# Altium integrated library OKI Microcontroller 32-Bit ARM.IntLib: 27 symbols (part 1 of 2)
Pins are listed as number, name and electrical type; pins without a type are passive.

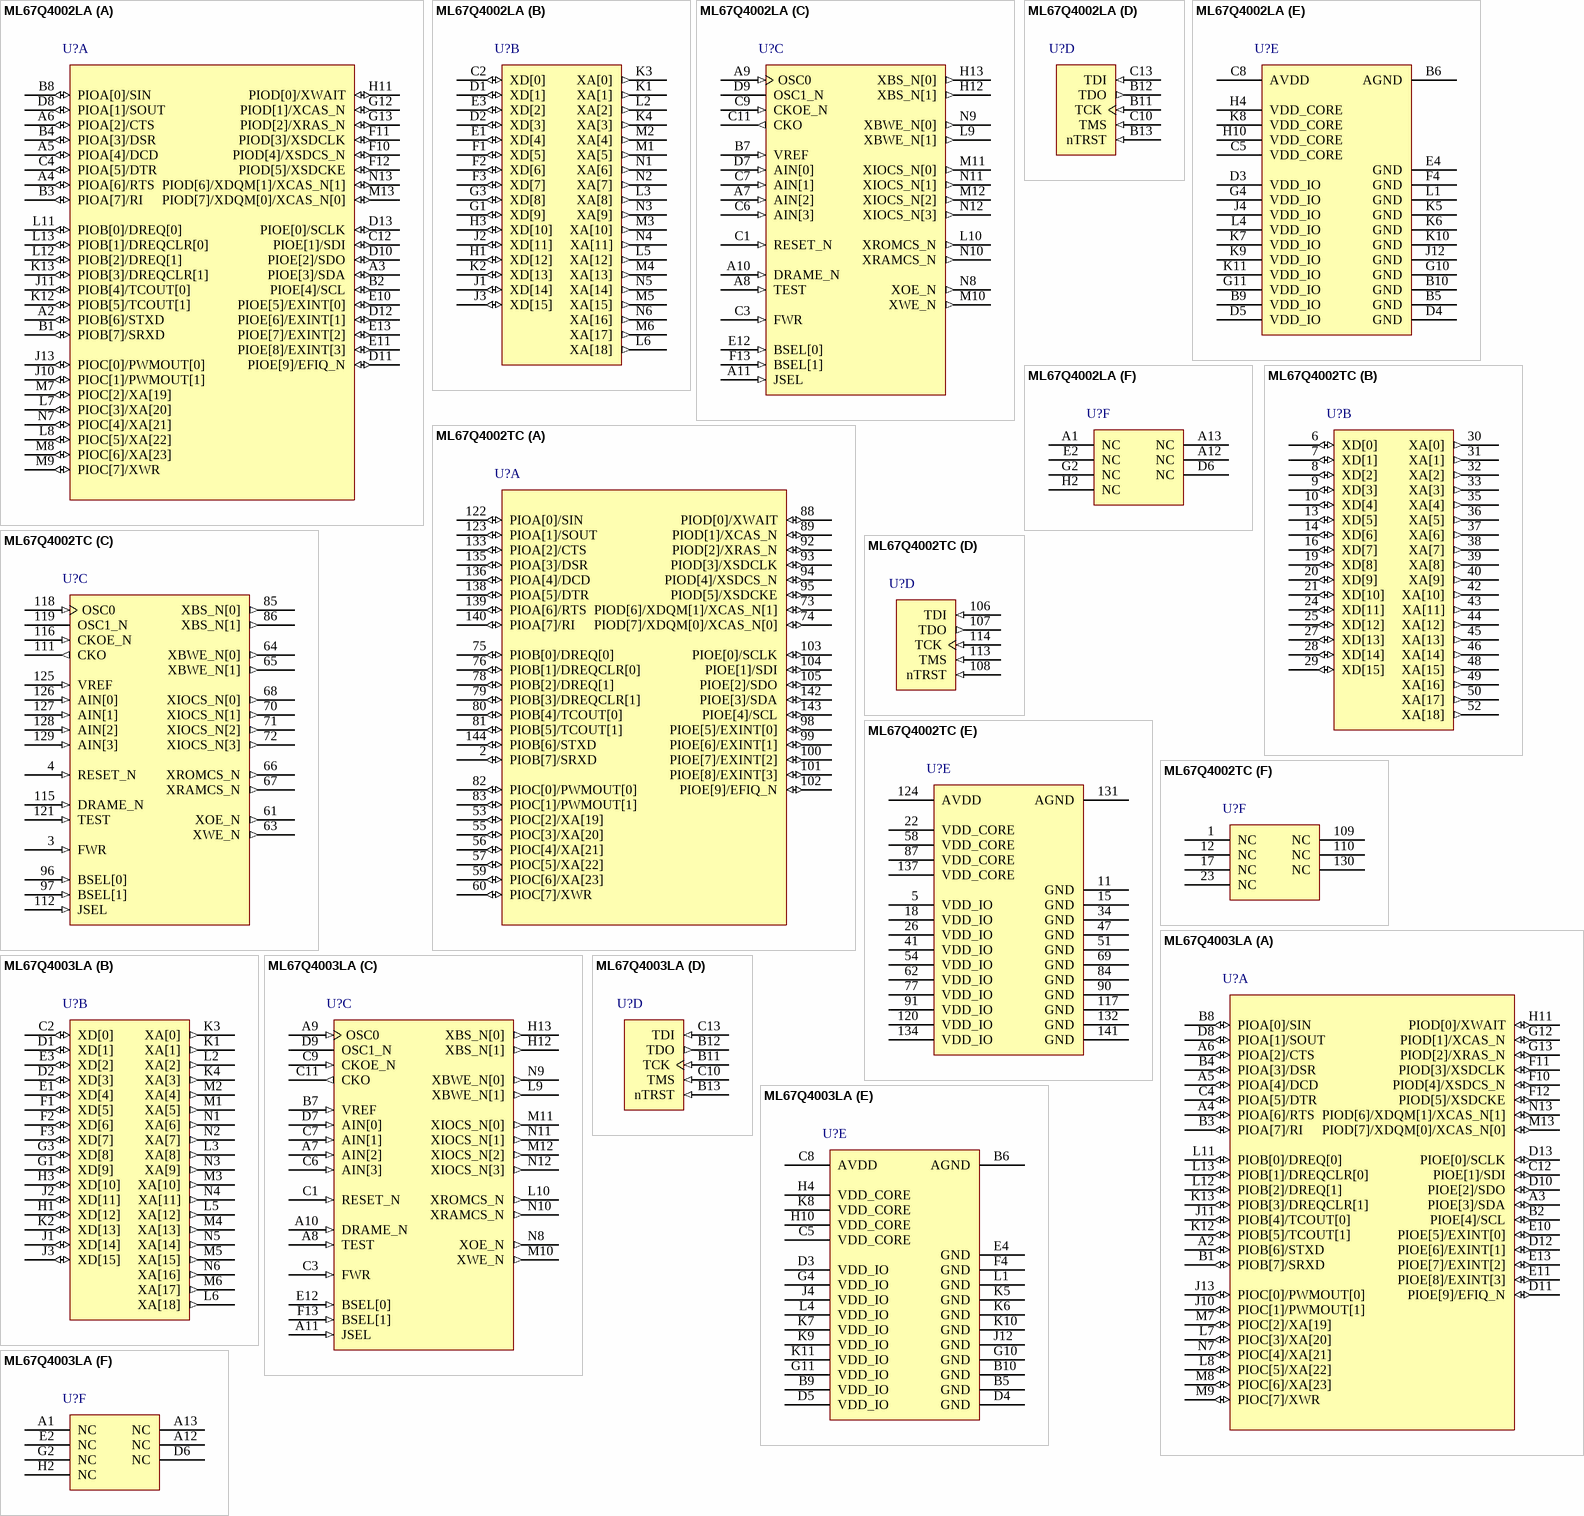
[diagram p0: symbols ML67Q4002LA to ML67Q4003LA]

## ML67Q4002LA
designator U?
ARM7TDMI 32-Bit Microcontroller, 256KB Flash ROM, 144-pin LFBGA; Published: 18-Aug-2005; LatestRevisionDate: 12-Dec-2006; LatestRevisionNote: Changed Sch Layout.; DatasheetVersion: rev2.0, Apr-2004; PackageVersion: Apr-2004; PackageReference: P-L-FBGA144-1111-0.80; Publisher: Altium Limited; PackageDescription: 144-Ball Plastic Ball Grid Array 0.8 mm Pitch; ComponentLink1Description: Manufacturer Link; ComponentLink1URL: http://www2.okisemi.com/; ComponentLink2Description: Datasheet; ComponentLink2URL: http://www2.okisemi.com/site/datasheets/ML674001_2_3_DS.pdf
footprint P-L-FBGA144-1111-0.80 (BGA, 144-Leads, Body 11x11mm, Pitch 0.8mm)
3D model ML67Q4002-BGA144 (144-Ball Plastic Ball Grid Array 0.8 mm Pitch)
part A pins: A2 PIOB[6]/STXD (io), A3 PIOE[3]/SDA (io), A4 PIOA[6]/RTS (io), A5 PIOA[4]/DCD (io), A6 PIOA[2]/CTS (io), B1 PIOB[7]/SRXD (io), B2 PIOE[4]/SCL (io), B3 PIOA[7]/RI (io), B4 PIOA[3]/DSR (io), B8 PIOA[0]/SIN (io), C4 PIOA[5]/DTR (io), C12 PIOE[1]/SDI (io), D8 PIOA[1]/SOUT (io), D10 PIOE[2]/SDO (io), D11 PIOE[9]/EFIQ_N (io), D12 PIOE[6]/EXINT[1] (io), D13 PIOE[0]/SCLK (io), E10 PIOE[5]/EXINT[0] (io), E11 PIOE[8]/EXINT[3] (io), E13 PIOE[7]/EXINT[2] (io), F10 PIOD[4]/XSDCS_N (io), F11 PIOD[3]/XSDCLK (io), F12 PIOD[5]/XSDCKE (io), G12 PIOD[1]/XCAS_N (io), G13 PIOD[2]/XRAS_N (io), H11 PIOD[0]/XWAIT (io), J10 PIOC[1]/PWMOUT[1] (io), J11 PIOB[4]/TCOUT[0] (io), J13 PIOC[0]/PWMOUT[0] (io), K12 PIOB[5]/TCOUT[1] (io), K13 PIOB[3]/DREQCLR[1] (io), L7 PIOC[3]/XA[20] (io), L8 PIOC[5]/XA[22] (io), L11 PIOB[0]/DREQ[0] (io), L12 PIOB[2]/DREQ[1] (io), L13 PIOB[1]/DREQCLR[0] (io), M7 PIOC[2]/XA[19] (io), M8 PIOC[6]/XA[23] (io), M9 PIOC[7]/XWR (io), M13 PIOD[7]/XDQM[0]/XCAS_N[0] (io), N7 PIOC[4]/XA[21] (io), N13 PIOD[6]/XDQM[1]/XCAS_N[1] (io)
part B pins: C2 XD[0] (io), D1 XD[1] (io), D2 XD[3] (io), E1 XD[4] (io), E3 XD[2] (io), F1 XD[5] (io), F2 XD[6] (io), F3 XD[7] (io), G1 XD[9] (io), G3 XD[8] (io), H1 XD[12] (io), H3 XD[10] (io), J1 XD[14] (io), J2 XD[11] (io), J3 XD[15] (io), K1 XA[1] (out), K2 XD[13] (io), K3 XA[0] (out), K4 XA[3] (out), L2 XA[2] (out), L3 XA[8] (out), L5 XA[12] (out), L6 XA[18] (out), M1 XA[5] (out), M2 XA[4] (out), M3 XA[10] (out), M4 XA[13] (out), M5 XA[15] (out), M6 XA[17] (out), N1 XA[6] (out), N2 XA[7] (out), N3 XA[9] (out), N4 XA[11] (out), N5 XA[14] (out), N6 XA[16] (out)
part C pins: A7 AIN[2] (in), A8 TEST (in), A9 OSC0 (in), A10 DRAME_N (in), A11 JSEL (in), B7 VREF (in), C1 RESET_N (in), C3 FWR (in), C6 AIN[3] (in), C7 AIN[1] (in), C9 CKOE_N (in), C11 CKO (out), D7 AIN[0] (in), D9 OSC1_N, E12 BSEL[0] (in), F13 BSEL[1] (in), H12 XBS_N[1] (out), H13 XBS_N[0] (out), L9 XBWE_N[1] (out), L10 XROMCS_N (out), M10 XWE_N (out), M11 XIOCS_N[0] (out), M12 XIOCS_N[2] (out), N8 XOE_N (out), N9 XBWE_N[0] (out), N10 XRAMCS_N (out), N11 XIOCS_N[1] (out), N12 XIOCS_N[3] (out)
part D pins: B11 TCK (in), B12 TDO (out), B13 nTRST (in), C10 TMS (in), C13 TDI (in)
part E pins: B5 GND (power), B6 AGND (power), B9 VDD_IO (power), B10 GND (power), C5 VDD_CORE (power), C8 AVDD (power), D3 VDD_IO (power), D4 GND (power), D5 VDD_IO (power), E4 GND (power), F4 GND (power), G4 VDD_IO (power), G10 GND (power), G11 VDD_IO (power), H4 VDD_CORE (power), H10 VDD_CORE (power), J4 VDD_IO (power), J12 GND (power), K5 GND (power), K6 GND (power), K7 VDD_IO (power), K8 VDD_CORE (power), K9 VDD_IO (power), K10 GND (power), K11 VDD_IO (power), L1 GND (power), L4 VDD_IO (power)
part F pins: A1 NC, A12 NC, A13 NC, D6 NC, E2 NC, G2 NC, H2 NC

## ML67Q4002TC
designator U?
ARM7TDMI 32-Bit Microcontroller, 256KB Flash ROM, 144-pin LQFP; Published: 18-Aug-2005; LatestRevisionDate: 12-Dec-2006; LatestRevisionNote: Changed Sch Layout.; DatasheetVersion: rev2.0, Apr-2004; PackageVersion: rev5, Nov-1996; PackageReference: LQFP144-P-2020-0.50-K; Publisher: Altium Limited; PackageDescription: 144-Pin Plastic Shrink Quad Flat Pack 0.5 mm Pitch; Code_IPC: SQFP50P2200X2200-144; ComponentLink1Description: Manufacturer Link; ComponentLink1URL: http://www2.okisemi.com/; ComponentLink2Description: Datasheet; ComponentLink2URL: http://www2.okisemi.com/site/datasheets/ML674001_2_3_DS.pdf
footprint LQFP144-P-2020-0.50-K_N (Shrink QFP, 144-Leads, Body 20x20mm, Pitch 0.5mm, IPC Medium Density)
footprint LQFP144-P-2020-0.50-K_L (Shrink QFP, 144-Leads, Body 20x20mm, Pitch 0.5mm, IPC High Density)
footprint LQFP144-P-2020-0.50-K_M (Shrink QFP, 144-Leads, Body 20x20mm, Pitch 0.5mm, IPC Low Density)
3D model ML67Q4002-QFP144 (144-Pin Plastic Shrink Quad Flat Pack 0.5 mm Pitch)
part A pins: 2 PIOB[7]/SRXD (io), 53 PIOC[2]/XA[19] (io), 55 PIOC[3]/XA[20] (io), 56 PIOC[4]/XA[21] (io), 57 PIOC[5]/XA[22] (io), 59 PIOC[6]/XA[23] (io), 60 PIOC[7]/XWR (io), 73 PIOD[6]/XDQM[1]/XCAS_N[1] (io), 74 PIOD[7]/XDQM[0]/XCAS_N[0] (io), 75 PIOB[0]/DREQ[0] (io), 76 PIOB[1]/DREQCLR[0] (io), 78 PIOB[2]/DREQ[1] (io), 79 PIOB[3]/DREQCLR[1] (io), 80 PIOB[4]/TCOUT[0] (io), 81 PIOB[5]/TCOUT[1] (io), 82 PIOC[0]/PWMOUT[0] (io), 83 PIOC[1]/PWMOUT[1] (io), 88 PIOD[0]/XWAIT (io), 89 PIOD[1]/XCAS_N (io), 92 PIOD[2]/XRAS_N (io), 93 PIOD[3]/XSDCLK (io), 94 PIOD[4]/XSDCS_N (io), 95 PIOD[5]/XSDCKE (io), 98 PIOE[5]/EXINT[0] (io), 99 PIOE[6]/EXINT[1] (io), 100 PIOE[7]/EXINT[2] (io), 101 PIOE[8]/EXINT[3] (io), 102 PIOE[9]/EFIQ_N (io), 103 PIOE[0]/SCLK (io), 104 PIOE[1]/SDI (io), 105 PIOE[2]/SDO (io), 122 PIOA[0]/SIN (io), 123 PIOA[1]/SOUT (io), 133 PIOA[2]/CTS (io), 135 PIOA[3]/DSR (io), 136 PIOA[4]/DCD (io), 138 PIOA[5]/DTR (io), 139 PIOA[6]/RTS (io), 140 PIOA[7]/RI (io), 142 PIOE[3]/SDA (io), 143 PIOE[4]/SCL (io), 144 PIOB[6]/STXD (io)
part B pins: 6 XD[0] (io), 7 XD[1] (io), 8 XD[2] (io), 9 XD[3] (io), 10 XD[4] (io), 13 XD[5] (io), 14 XD[6] (io), 16 XD[7] (io), 19 XD[8] (io), 20 XD[9] (io), 21 XD[10] (io), 24 XD[11] (io), 25 XD[12] (io), 27 XD[13] (io), 28 XD[14] (io), 29 XD[15] (io), 30 XA[0] (out), 31 XA[1] (out), 32 XA[2] (out), 33 XA[3] (out), 35 XA[4] (out), 36 XA[5] (out), 37 XA[6] (out), 38 XA[7] (out), 39 XA[8] (out), 40 XA[9] (out), 42 XA[10] (out), 43 XA[11] (out), 44 XA[12] (out), 45 XA[13] (out), 46 XA[14] (out), 48 XA[15] (out), 49 XA[16] (out), 50 XA[17] (out), 52 XA[18] (out)
part C pins: 3 FWR (in), 4 RESET_N (in), 61 XOE_N (out), 63 XWE_N (out), 64 XBWE_N[0] (out), 65 XBWE_N[1] (out), 66 XROMCS_N (out), 67 XRAMCS_N (out), 68 XIOCS_N[0] (out), 70 XIOCS_N[1] (out), 71 XIOCS_N[2] (out), 72 XIOCS_N[3] (out), 85 XBS_N[0] (out), 86 XBS_N[1] (out), 96 BSEL[0] (in), 97 BSEL[1] (in), 111 CKO (out), 112 JSEL (in), 115 DRAME_N (in), 116 CKOE_N (in), 118 OSC0 (in), 119 OSC1_N, 121 TEST (in), 125 VREF (in), 126 AIN[0] (in), 127 AIN[1] (in), 128 AIN[2] (in), 129 AIN[3] (in)
part D pins: 106 TDI (in), 107 TDO (out), 108 nTRST (in), 113 TMS (in), 114 TCK (in)
part E pins: 5 VDD_IO (power), 11 GND (power), 15 GND (power), 18 VDD_IO (power), 22 VDD_CORE (power), 26 VDD_IO (power), 34 GND (power), 41 VDD_IO (power), 47 GND (power), 51 GND (power), 54 VDD_IO (power), 58 VDD_CORE (power), 62 VDD_IO (power), 69 GND (power), 77 VDD_IO (power), 84 GND (power), 87 VDD_CORE (power), 90 GND (power), 91 VDD_IO (power), 117 GND (power), 120 VDD_IO (power), 124 AVDD (power), 131 AGND (power), 132 GND (power), 134 VDD_IO (power), 137 VDD_CORE (power), 141 GND (power)
part F pins: 1 NC, 12 NC, 17 NC, 23 NC, 109 NC, 110 NC, 130 NC

## ML67Q4003LA
designator U?
ARM7TDMI 32-Bit Microcontroller, 512KB Flash ROM, 144-pin LFBGA; Published: 18-Aug-2005; LatestRevisionDate: 12-Dec-2006; LatestRevisionNote: Changed Sch Layout.; DatasheetVersion: rev2.0, Apr-2004; PackageVersion: Apr-2004; PackageReference: P-L-FBGA144-1111-0.80; Publisher: Altium Limited; PackageDescription: 144-Ball Plastic Ball Grid Array 0.8 mm Pitch; ComponentLink1Description: Manufacturer Link; ComponentLink1URL: http://www2.okisemi.com/; ComponentLink2Description: Datasheet; ComponentLink2URL: http://www2.okisemi.com/site/datasheets/ML674001_2_3_DS.pdf
footprint P-L-FBGA144-1111-0.80 (BGA, 144-Leads, Body 11x11mm, Pitch 0.8mm)
3D model ML67Q4003-BGA144 (144-Ball Plastic Ball Grid Array 0.8 mm Pitch)
part A pins: A2 PIOB[6]/STXD (io), A3 PIOE[3]/SDA (io), A4 PIOA[6]/RTS (io), A5 PIOA[4]/DCD (io), A6 PIOA[2]/CTS (io), B1 PIOB[7]/SRXD (io), B2 PIOE[4]/SCL (io), B3 PIOA[7]/RI (io), B4 PIOA[3]/DSR (io), B8 PIOA[0]/SIN (io), C4 PIOA[5]/DTR (io), C12 PIOE[1]/SDI (io), D8 PIOA[1]/SOUT (io), D10 PIOE[2]/SDO (io), D11 PIOE[9]/EFIQ_N (io), D12 PIOE[6]/EXINT[1] (io), D13 PIOE[0]/SCLK (io), E10 PIOE[5]/EXINT[0] (io), E11 PIOE[8]/EXINT[3] (io), E13 PIOE[7]/EXINT[2] (io), F10 PIOD[4]/XSDCS_N (io), F11 PIOD[3]/XSDCLK (io), F12 PIOD[5]/XSDCKE (io), G12 PIOD[1]/XCAS_N (io), G13 PIOD[2]/XRAS_N (io), H11 PIOD[0]/XWAIT (io), J10 PIOC[1]/PWMOUT[1] (io), J11 PIOB[4]/TCOUT[0] (io), J13 PIOC[0]/PWMOUT[0] (io), K12 PIOB[5]/TCOUT[1] (io), K13 PIOB[3]/DREQCLR[1] (io), L7 PIOC[3]/XA[20] (io), L8 PIOC[5]/XA[22] (io), L11 PIOB[0]/DREQ[0] (io), L12 PIOB[2]/DREQ[1] (io), L13 PIOB[1]/DREQCLR[0] (io), M7 PIOC[2]/XA[19] (io), M8 PIOC[6]/XA[23] (io), M9 PIOC[7]/XWR (io), M13 PIOD[7]/XDQM[0]/XCAS_N[0] (io), N7 PIOC[4]/XA[21] (io), N13 PIOD[6]/XDQM[1]/XCAS_N[1] (io)
part B pins: C2 XD[0] (io), D1 XD[1] (io), D2 XD[3] (io), E1 XD[4] (io), E3 XD[2] (io), F1 XD[5] (io), F2 XD[6] (io), F3 XD[7] (io), G1 XD[9] (io), G3 XD[8] (io), H1 XD[12] (io), H3 XD[10] (io), J1 XD[14] (io), J2 XD[11] (io), J3 XD[15] (io), K1 XA[1] (out), K2 XD[13] (io), K3 XA[0] (out), K4 XA[3] (out), L2 XA[2] (out), L3 XA[8] (out), L5 XA[12] (out), L6 XA[18] (out), M1 XA[5] (out), M2 XA[4] (out), M3 XA[10] (out), M4 XA[13] (out), M5 XA[15] (out), M6 XA[17] (out), N1 XA[6] (out), N2 XA[7] (out), N3 XA[9] (out), N4 XA[11] (out), N5 XA[14] (out), N6 XA[16] (out)
part C pins: A7 AIN[2] (in), A8 TEST (in), A9 OSC0 (in), A10 DRAME_N (in), A11 JSEL (in), B7 VREF (in), C1 RESET_N (in), C3 FWR (in), C6 AIN[3] (in), C7 AIN[1] (in), C9 CKOE_N (in), C11 CKO (out), D7 AIN[0] (in), D9 OSC1_N, E12 BSEL[0] (in), F13 BSEL[1] (in), H12 XBS_N[1] (out), H13 XBS_N[0] (out), L9 XBWE_N[1] (out), L10 XROMCS_N (out), M10 XWE_N (out), M11 XIOCS_N[0] (out), M12 XIOCS_N[2] (out), N8 XOE_N (out), N9 XBWE_N[0] (out), N10 XRAMCS_N (out), N11 XIOCS_N[1] (out), N12 XIOCS_N[3] (out)
part D pins: B11 TCK (in), B12 TDO (out), B13 nTRST (in), C10 TMS (in), C13 TDI (in)
part E pins: B5 GND (power), B6 AGND (power), B9 VDD_IO (power), B10 GND (power), C5 VDD_CORE (power), C8 AVDD (power), D3 VDD_IO (power), D4 GND (power), D5 VDD_IO (power), E4 GND (power), F4 GND (power), G4 VDD_IO (power), G10 GND (power), G11 VDD_IO (power), H4 VDD_CORE (power), H10 VDD_CORE (power), J4 VDD_IO (power), J12 GND (power), K5 GND (power), K6 GND (power), K7 VDD_IO (power), K8 VDD_CORE (power), K9 VDD_IO (power), K10 GND (power), K11 VDD_IO (power), L1 GND (power), L4 VDD_IO (power)
part F pins: A1 NC, A12 NC, A13 NC, D6 NC, E2 NC, G2 NC, H2 NC

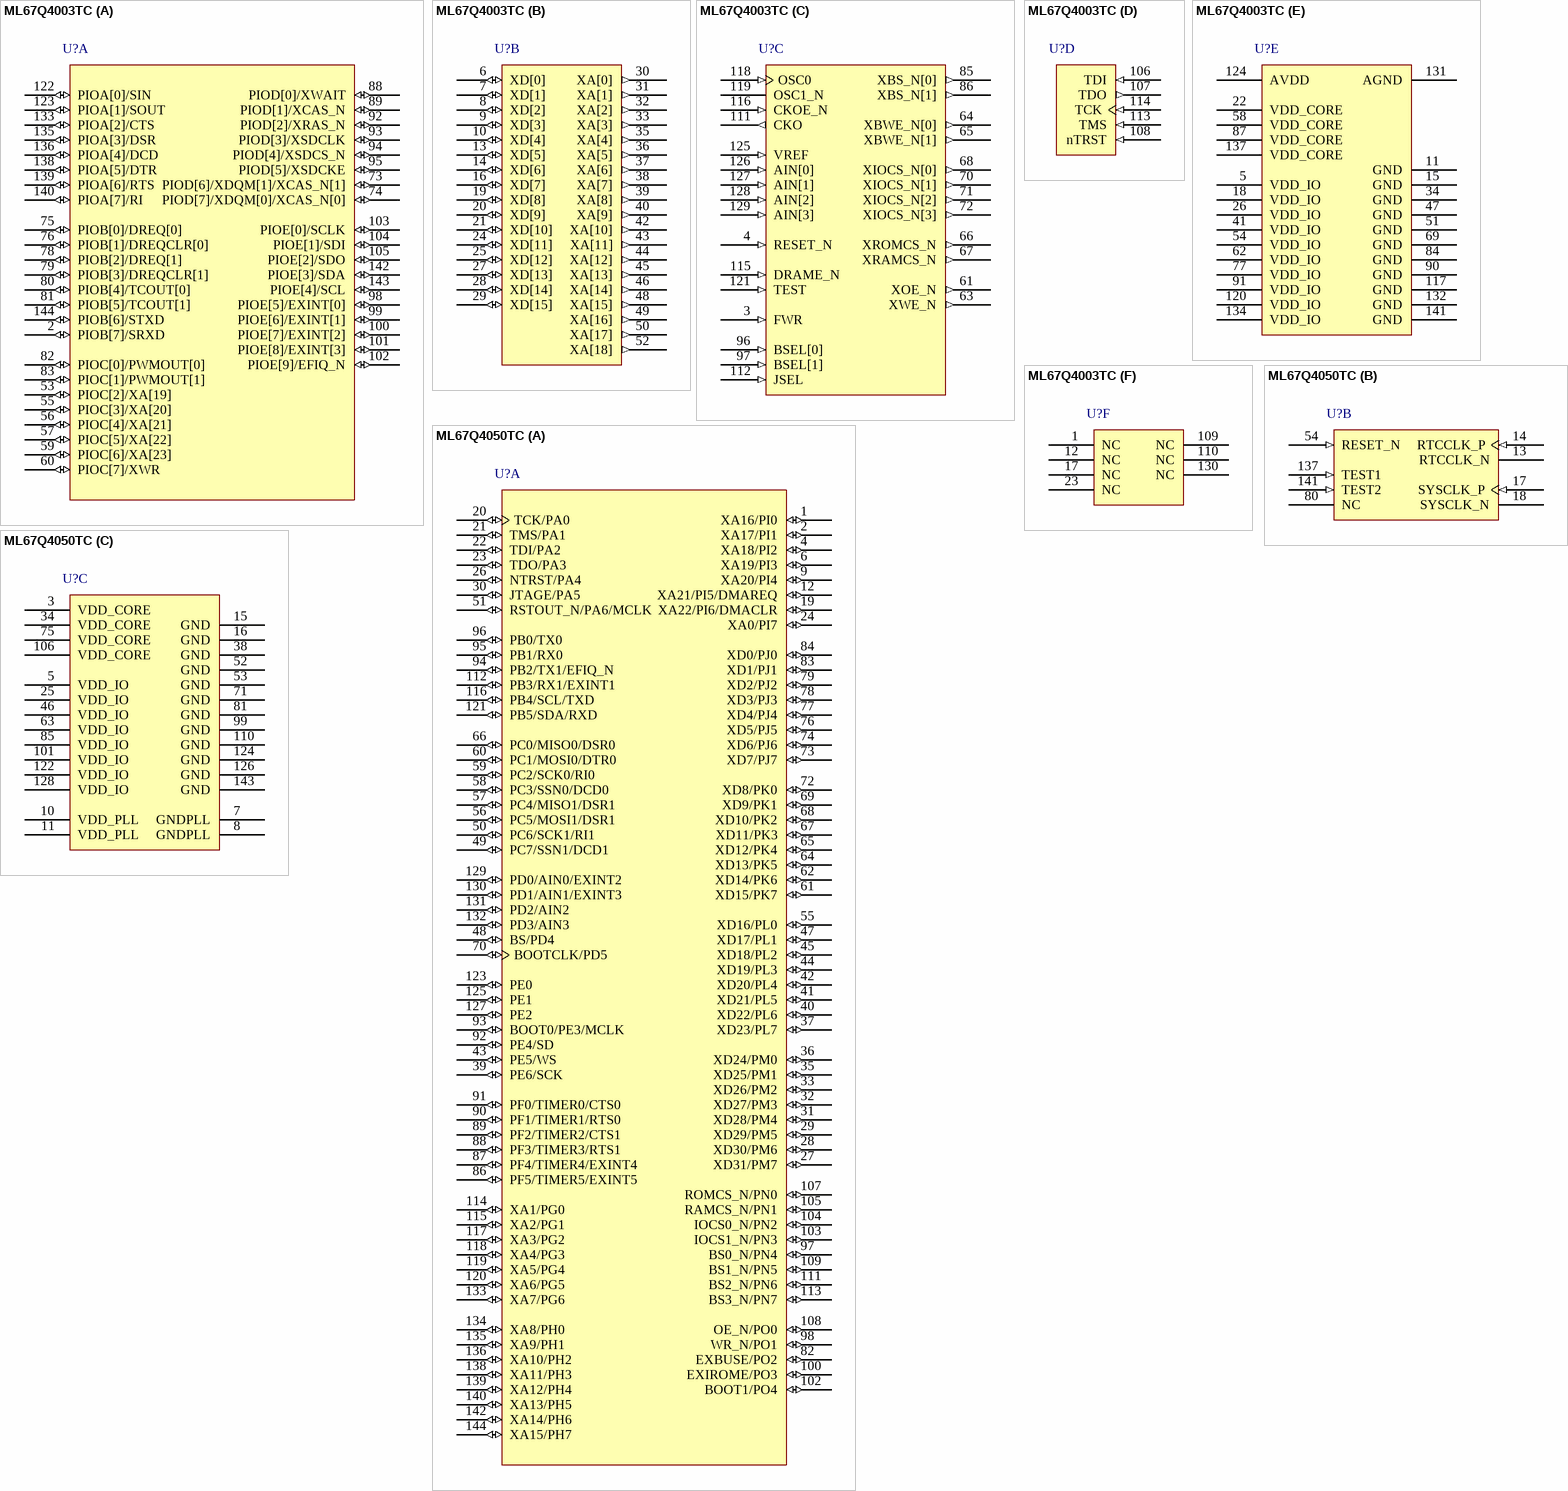
[diagram p1: symbols ML67Q4003TC to ML67Q4050TC]

## ML67Q4003TC
designator U?
ARM7TDMI 32-Bit Microcontroller, 512KB Flash ROM, 144-pin LQFP; Published: 18-Aug-2005; LatestRevisionDate: 12-Dec-2006; LatestRevisionNote: Changed Sch Layout.; DatasheetVersion: rev2.0, Apr-2004; PackageVersion: rev5, Nov-1996; PackageReference: LQFP144-P-2020-0.50-K; Publisher: Altium Limited; PackageDescription: 144-Pin Plastic Shrink Quad Flat Pack 0.5 mm Pitch; Code_IPC: SQFP50P2200X2200-144; ComponentLink1Description: Manufacturer Link; ComponentLink1URL: http://www2.okisemi.com/; ComponentLink2Description: Datasheet; ComponentLink2URL: http://www2.okisemi.com/site/datasheets/ML674001_2_3_DS.pdf
footprint LQFP144-P-2020-0.50-K_N (Shrink QFP, 144-Leads, Body 20x20mm, Pitch 0.5mm, IPC Medium Density)
footprint LQFP144-P-2020-0.50-K_L (Shrink QFP, 144-Leads, Body 20x20mm, Pitch 0.5mm, IPC High Density)
footprint LQFP144-P-2020-0.50-K_M (Shrink QFP, 144-Leads, Body 20x20mm, Pitch 0.5mm, IPC Low Density)
3D model ML67Q4003-QFP144 (144-Pin Plastic Shrink Quad Flat Pack 0.5 mm Pitch)
part A pins: 2 PIOB[7]/SRXD (io), 53 PIOC[2]/XA[19] (io), 55 PIOC[3]/XA[20] (io), 56 PIOC[4]/XA[21] (io), 57 PIOC[5]/XA[22] (io), 59 PIOC[6]/XA[23] (io), 60 PIOC[7]/XWR (io), 73 PIOD[6]/XDQM[1]/XCAS_N[1] (io), 74 PIOD[7]/XDQM[0]/XCAS_N[0] (io), 75 PIOB[0]/DREQ[0] (io), 76 PIOB[1]/DREQCLR[0] (io), 78 PIOB[2]/DREQ[1] (io), 79 PIOB[3]/DREQCLR[1] (io), 80 PIOB[4]/TCOUT[0] (io), 81 PIOB[5]/TCOUT[1] (io), 82 PIOC[0]/PWMOUT[0] (io), 83 PIOC[1]/PWMOUT[1] (io), 88 PIOD[0]/XWAIT (io), 89 PIOD[1]/XCAS_N (io), 92 PIOD[2]/XRAS_N (io), 93 PIOD[3]/XSDCLK (io), 94 PIOD[4]/XSDCS_N (io), 95 PIOD[5]/XSDCKE (io), 98 PIOE[5]/EXINT[0] (io), 99 PIOE[6]/EXINT[1] (io), 100 PIOE[7]/EXINT[2] (io), 101 PIOE[8]/EXINT[3] (io), 102 PIOE[9]/EFIQ_N (io), 103 PIOE[0]/SCLK (io), 104 PIOE[1]/SDI (io), 105 PIOE[2]/SDO (io), 122 PIOA[0]/SIN (io), 123 PIOA[1]/SOUT (io), 133 PIOA[2]/CTS (io), 135 PIOA[3]/DSR (io), 136 PIOA[4]/DCD (io), 138 PIOA[5]/DTR (io), 139 PIOA[6]/RTS (io), 140 PIOA[7]/RI (io), 142 PIOE[3]/SDA (io), 143 PIOE[4]/SCL (io), 144 PIOB[6]/STXD (io)
part B pins: 6 XD[0] (io), 7 XD[1] (io), 8 XD[2] (io), 9 XD[3] (io), 10 XD[4] (io), 13 XD[5] (io), 14 XD[6] (io), 16 XD[7] (io), 19 XD[8] (io), 20 XD[9] (io), 21 XD[10] (io), 24 XD[11] (io), 25 XD[12] (io), 27 XD[13] (io), 28 XD[14] (io), 29 XD[15] (io), 30 XA[0] (out), 31 XA[1] (out), 32 XA[2] (out), 33 XA[3] (out), 35 XA[4] (out), 36 XA[5] (out), 37 XA[6] (out), 38 XA[7] (out), 39 XA[8] (out), 40 XA[9] (out), 42 XA[10] (out), 43 XA[11] (out), 44 XA[12] (out), 45 XA[13] (out), 46 XA[14] (out), 48 XA[15] (out), 49 XA[16] (out), 50 XA[17] (out), 52 XA[18] (out)
part C pins: 3 FWR (in), 4 RESET_N (in), 61 XOE_N (out), 63 XWE_N (out), 64 XBWE_N[0] (out), 65 XBWE_N[1] (out), 66 XROMCS_N (out), 67 XRAMCS_N (out), 68 XIOCS_N[0] (out), 70 XIOCS_N[1] (out), 71 XIOCS_N[2] (out), 72 XIOCS_N[3] (out), 85 XBS_N[0] (out), 86 XBS_N[1] (out), 96 BSEL[0] (in), 97 BSEL[1] (in), 111 CKO (out), 112 JSEL (in), 115 DRAME_N (in), 116 CKOE_N (in), 118 OSC0 (in), 119 OSC1_N, 121 TEST (in), 125 VREF (in), 126 AIN[0] (in), 127 AIN[1] (in), 128 AIN[2] (in), 129 AIN[3] (in)
part D pins: 106 TDI (in), 107 TDO (out), 108 nTRST (in), 113 TMS (in), 114 TCK (in)
part E pins: 5 VDD_IO (power), 11 GND (power), 15 GND (power), 18 VDD_IO (power), 22 VDD_CORE (power), 26 VDD_IO (power), 34 GND (power), 41 VDD_IO (power), 47 GND (power), 51 GND (power), 54 VDD_IO (power), 58 VDD_CORE (power), 62 VDD_IO (power), 69 GND (power), 77 VDD_IO (power), 84 GND (power), 87 VDD_CORE (power), 90 GND (power), 91 VDD_IO (power), 117 GND (power), 120 VDD_IO (power), 124 AVDD (power), 131 AGND (power), 132 GND (power), 134 VDD_IO (power), 137 VDD_CORE (power), 141 GND (power)
part F pins: 1 NC, 12 NC, 17 NC, 23 NC, 109 NC, 110 NC, 130 NC

## ML67Q4050TC
designator U?
ARM7TDMI 32-Bit Microcontroller, 64KB Flash ROM, 144-pin LQFP; Published: 12-Dec-2006; DatasheetVersion: rev1.2, Jun-2006; PackageVersion: rev5, Nov-1996; PackageReference: LQFP144-P-2020-0.50-ZK; Publisher: Altium Limited; PackageDescription: 144-Pin Plastic Shrink Quad Flat Pack 0.5 mm Pitch; Code_IPC: SQFP50P2200X2200-144; ComponentLink1Description: Manufacturer Link; ComponentLink1URL: http://www2.okisemi.com/; ComponentLink2Description: Datasheet; ComponentLink2URL: http://www2.okisemi.com/site/datasheets/ML67Q4050_4060-DS_rev1.2.pdf
footprint LQFP144-P-2020-0.50-ZK_N (Shrink QFP, 144-Leads, Body 20x20mm, Pitch 0.5mm, IPC Medium Density)
footprint LQFP144-P-2020-0.50-ZK_L (Shrink QFP, 144-Leads, Body 20x20mm, Pitch 0.5mm, IPC High Density)
footprint LQFP144-P-2020-0.50-ZK_M (Shrink QFP, 144-Leads, Body 20x20mm, Pitch 0.5mm, IPC Low Density)
part A pins: 1 XA16/PI0 (io), 2 XA17/PI1 (io), 4 XA18/PI2 (io), 6 XA19/PI3 (io), 9 XA20/PI4 (io), 12 XA21/PI5/DMAREQ (io), 19 XA22/PI6/DMACLR (io), 20 TCK/PA0 (io), 21 TMS/PA1 (io), 22 TDI/PA2 (io), 23 TDO/PA3 (io), 24 XA0/PI7 (io), 26 NTRST/PA4 (io), 27 XD31/PM7 (io), 28 XD30/PM6 (io), 29 XD29/PM5 (io), 30 JTAGE/PA5 (io), 31 XD28/PM4 (io), 32 XD27/PM3 (io), 33 XD26/PM2 (io), 35 XD25/PM1 (io), 36 XD24/PM0 (io), 37 XD23/PL7 (io), 39 PE6/SCK (io), 40 XD22/PL6 (io), 41 XD21/PL5 (io), 42 XD20/PL4 (io), 43 PE5/WS (io), 44 XD19/PL3 (io), 45 XD18/PL2 (io), 47 XD17/PL1 (io), 48 BS/PD4 (io), 49 PC7/SSN1/DCD1 (io), 50 PC6/SCK1/RI1 (io), 51 RSTOUT_N/PA6/MCLK (io), 55 XD16/PL0 (io), 56 PC5/MOSI1/DSR1 (io), 57 PC4/MISO1/DSR1 (io), 58 PC3/SSN0/DCD0 (io), 59 PC2/SCK0/RI0 (io), 60 PC1/MOSI0/DTR0 (io), 61 XD15/PK7 (io), 62 XD14/PK6 (io), 64 XD13/PK5 (io), 65 XD12/PK4 (io), 66 PC0/MISO0/DSR0 (io), 67 XD11/PK3 (io), 68 XD10/PK2 (io), 69 XD9/PK1 (io), 70 BOOTCLK/PD5 (io), 72 XD8/PK0 (io), 73 XD7/PJ7 (io), 74 XD6/PJ6 (io), 76 XD5/PJ5 (io), 77 XD4/PJ4 (io), 78 XD3/PJ3 (io), 79 XD2/PJ2 (io), 82 EXBUSE/PO2 (io), 83 XD1/PJ1 (io), 84 XD0/PJ0 (io), 86 PF5/TIMER5/EXINT5 (io), 87 PF4/TIMER4/EXINT4 (io), 88 PF3/TIMER3/RTS1 (io), 89 PF2/TIMER2/CTS1 (io), 90 PF1/TIMER1/RTS0 (io), 91 PF0/TIMER0/CTS0 (io), 92 PE4/SD (io), 93 BOOT0/PE3/MCLK (io), 94 PB2/TX1/EFIQ_N (io), 95 PB1/RX0 (io), 96 PB0/TX0 (io), 97 BS0_N/PN4 (io), 98 WR_N/PO1 (io), 100 EXIROME/PO3 (io), 102 BOOT1/PO4 (io), 103 IOCS1_N/PN3 (io), 104 IOCS0_N/PN2 (io), 105 RAMCS_N/PN1 (io), 107 ROMCS_N/PN0 (io), 108 OE_N/PO0 (io), 109 BS1_N/PN5 (io), 111 BS2_N/PN6 (io), 112 PB3/RX1/EXINT1 (io), 113 BS3_N/PN7 (io), 114 XA1/PG0 (io), 115 XA2/PG1 (io), 116 PB4/SCL/TXD (io), 117 XA3/PG2 (io), 118 XA4/PG3 (io), 119 XA5/PG4 (io), 120 XA6/PG5 (io), 121 PB5/SDA/RXD (io), 123 PE0 (io), 125 PE1 (io), 127 PE2 (io), 129 PD0/AIN0/EXINT2 (io), 130 PD1/AIN1/EXINT3 (io), 131 PD2/AIN2 (io), 132 PD3/AIN3 (io), 133 XA7/PG6 (io), 134 XA8/PH0 (io), 135 XA9/PH1 (io), 136 XA10/PH2 (io), 138 XA11/PH3 (io), 139 XA12/PH4 (io), 140 XA13/PH5 (io), 142 XA14/PH6 (io), 144 XA15/PH7 (io)
part B pins: 13 RTCCLK_N, 14 RTCCLK_P (in), 17 SYSCLK_P (in), 18 SYSCLK_N, 54 RESET_N (in), 80 NC, 137 TEST1 (in), 141 TEST2 (in)
part C pins: 3 VDD_CORE (power), 5 VDD_IO (power), 7 GNDPLL (power), 8 GNDPLL (power), 10 VDD_PLL (power), 11 VDD_PLL (power), 15 GND (power), 16 GND (power), 25 VDD_IO (power), 34 VDD_CORE (power), 38 GND (power), 46 VDD_IO (power), 52 GND (power), 53 GND (power), 63 VDD_IO (power), 71 GND (power), 75 VDD_CORE (power), 81 GND (power), 85 VDD_IO (power), 99 GND (power), 101 VDD_IO (power), 106 VDD_CORE (power), 110 GND (power), 122 VDD_IO (power), 124 GND (power), 126 GND (power), 128 VDD_IO (power), 143 GND (power)

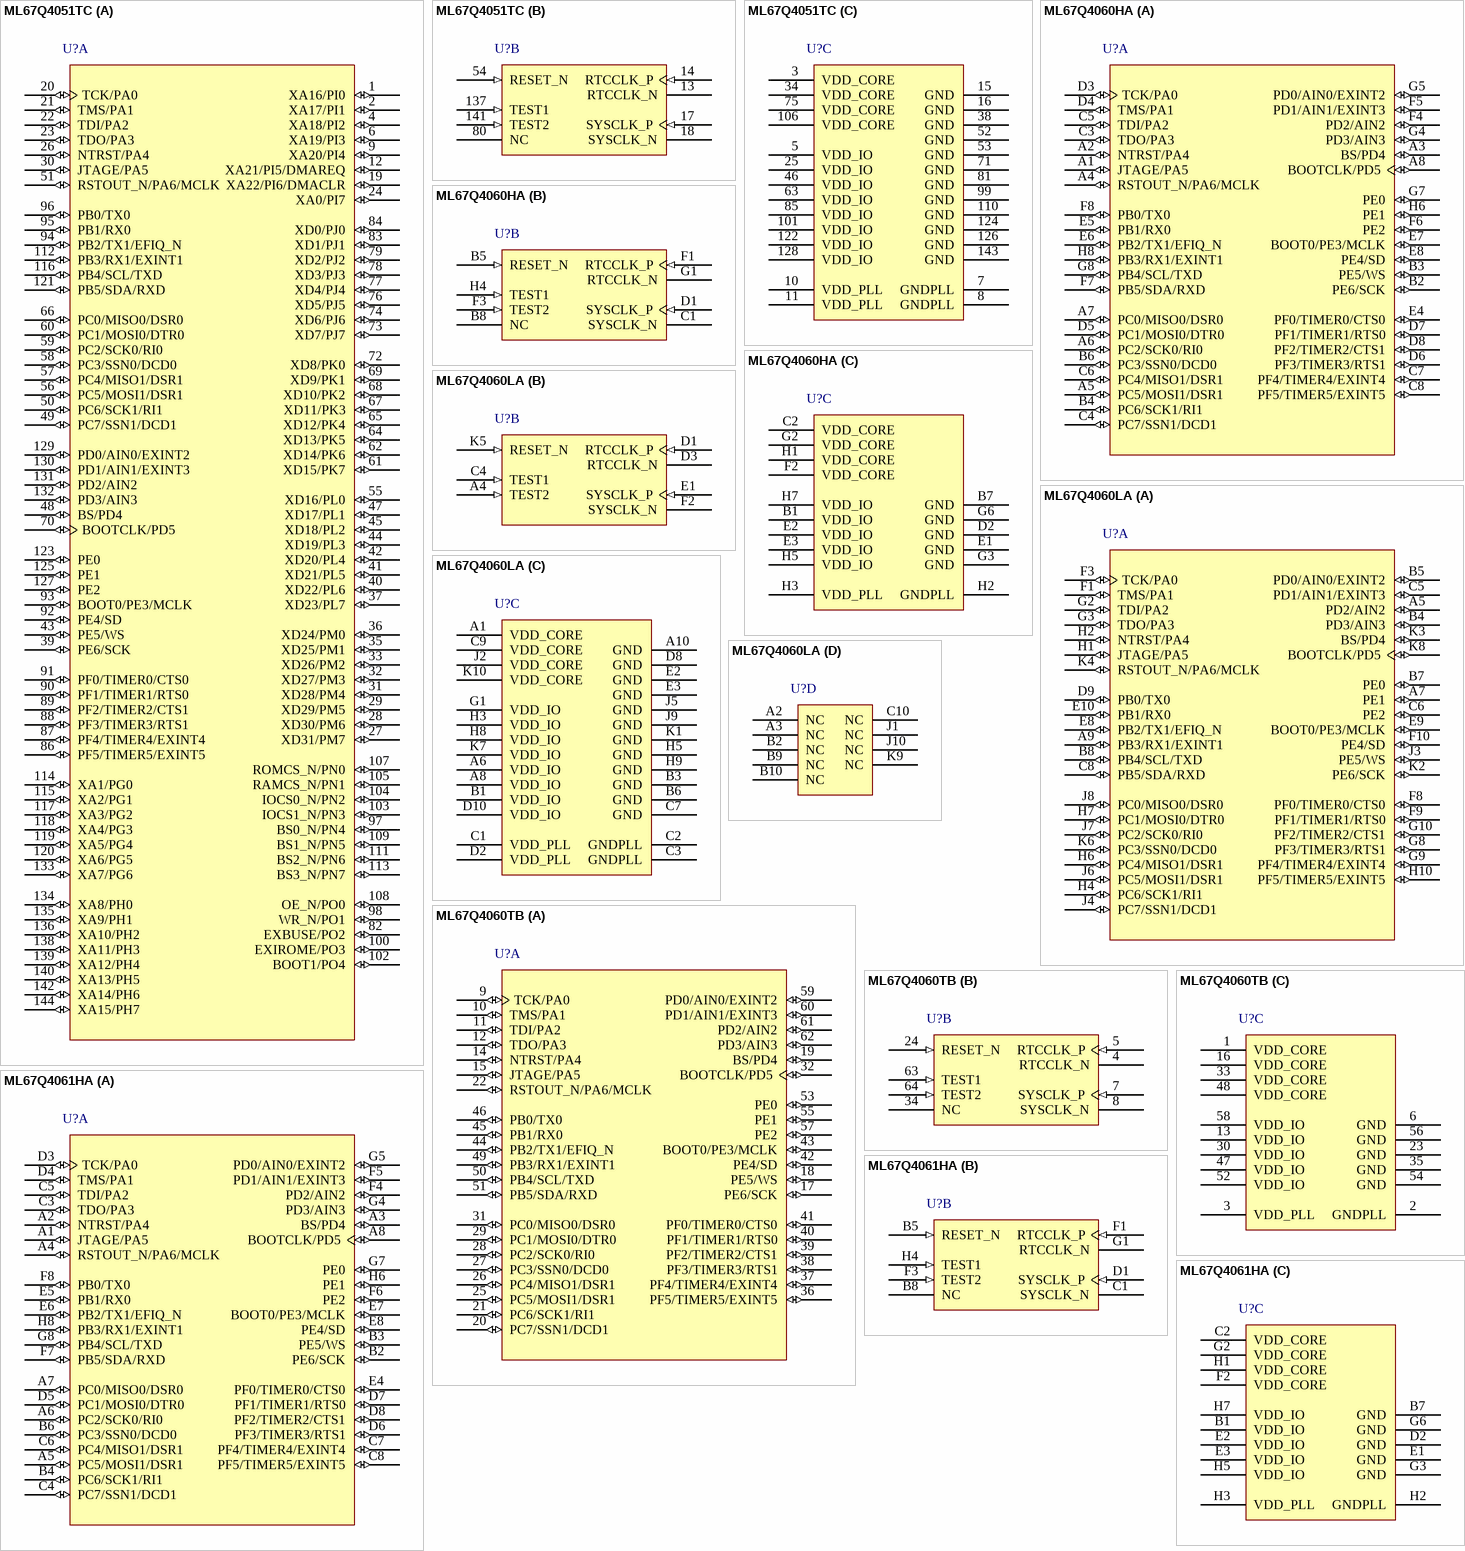
[diagram p2: symbols ML67Q4051TC to ML67Q4061HA]

## ML67Q4051TC
designator U?
ARM7TDMI 32-Bit Microcontroller, 128KB Flash ROM, 144-pin LQFP; Published: 12-Dec-2006; DatasheetVersion: rev1.2, Jun-2006; PackageVersion: rev5, Nov-1996; PackageReference: LQFP144-P-2020-0.50-ZK; Publisher: Altium Limited; PackageDescription: 144-Pin Plastic Shrink Quad Flat Pack 0.5 mm Pitch; Code_IPC: SQFP50P2200X2200-144; ComponentLink1Description: Manufacturer Link; ComponentLink1URL: http://www2.okisemi.com/; ComponentLink2Description: Datasheet; ComponentLink2URL: http://www2.okisemi.com/site/datasheets/ML67Q4050_4060-DS_rev1.2.pdf
footprint LQFP144-P-2020-0.50-ZK_N (Shrink QFP, 144-Leads, Body 20x20mm, Pitch 0.5mm, IPC Medium Density)
footprint LQFP144-P-2020-0.50-ZK_L (Shrink QFP, 144-Leads, Body 20x20mm, Pitch 0.5mm, IPC High Density)
footprint LQFP144-P-2020-0.50-ZK_M (Shrink QFP, 144-Leads, Body 20x20mm, Pitch 0.5mm, IPC Low Density)
part A pins: 1 XA16/PI0 (io), 2 XA17/PI1 (io), 4 XA18/PI2 (io), 6 XA19/PI3 (io), 9 XA20/PI4 (io), 12 XA21/PI5/DMAREQ (io), 19 XA22/PI6/DMACLR (io), 20 TCK/PA0 (io), 21 TMS/PA1 (io), 22 TDI/PA2 (io), 23 TDO/PA3 (io), 24 XA0/PI7 (io), 26 NTRST/PA4 (io), 27 XD31/PM7 (io), 28 XD30/PM6 (io), 29 XD29/PM5 (io), 30 JTAGE/PA5 (io), 31 XD28/PM4 (io), 32 XD27/PM3 (io), 33 XD26/PM2 (io), 35 XD25/PM1 (io), 36 XD24/PM0 (io), 37 XD23/PL7 (io), 39 PE6/SCK (io), 40 XD22/PL6 (io), 41 XD21/PL5 (io), 42 XD20/PL4 (io), 43 PE5/WS (io), 44 XD19/PL3 (io), 45 XD18/PL2 (io), 47 XD17/PL1 (io), 48 BS/PD4 (io), 49 PC7/SSN1/DCD1 (io), 50 PC6/SCK1/RI1 (io), 51 RSTOUT_N/PA6/MCLK (io), 55 XD16/PL0 (io), 56 PC5/MOSI1/DSR1 (io), 57 PC4/MISO1/DSR1 (io), 58 PC3/SSN0/DCD0 (io), 59 PC2/SCK0/RI0 (io), 60 PC1/MOSI0/DTR0 (io), 61 XD15/PK7 (io), 62 XD14/PK6 (io), 64 XD13/PK5 (io), 65 XD12/PK4 (io), 66 PC0/MISO0/DSR0 (io), 67 XD11/PK3 (io), 68 XD10/PK2 (io), 69 XD9/PK1 (io), 70 BOOTCLK/PD5 (io), 72 XD8/PK0 (io), 73 XD7/PJ7 (io), 74 XD6/PJ6 (io), 76 XD5/PJ5 (io), 77 XD4/PJ4 (io), 78 XD3/PJ3 (io), 79 XD2/PJ2 (io), 82 EXBUSE/PO2 (io), 83 XD1/PJ1 (io), 84 XD0/PJ0 (io), 86 PF5/TIMER5/EXINT5 (io), 87 PF4/TIMER4/EXINT4 (io), 88 PF3/TIMER3/RTS1 (io), 89 PF2/TIMER2/CTS1 (io), 90 PF1/TIMER1/RTS0 (io), 91 PF0/TIMER0/CTS0 (io), 92 PE4/SD (io), 93 BOOT0/PE3/MCLK (io), 94 PB2/TX1/EFIQ_N (io), 95 PB1/RX0 (io), 96 PB0/TX0 (io), 97 BS0_N/PN4 (io), 98 WR_N/PO1 (io), 100 EXIROME/PO3 (io), 102 BOOT1/PO4 (io), 103 IOCS1_N/PN3 (io), 104 IOCS0_N/PN2 (io), 105 RAMCS_N/PN1 (io), 107 ROMCS_N/PN0 (io), 108 OE_N/PO0 (io), 109 BS1_N/PN5 (io), 111 BS2_N/PN6 (io), 112 PB3/RX1/EXINT1 (io), 113 BS3_N/PN7 (io), 114 XA1/PG0 (io), 115 XA2/PG1 (io), 116 PB4/SCL/TXD (io), 117 XA3/PG2 (io), 118 XA4/PG3 (io), 119 XA5/PG4 (io), 120 XA6/PG5 (io), 121 PB5/SDA/RXD (io), 123 PE0 (io), 125 PE1 (io), 127 PE2 (io), 129 PD0/AIN0/EXINT2 (io), 130 PD1/AIN1/EXINT3 (io), 131 PD2/AIN2 (io), 132 PD3/AIN3 (io), 133 XA7/PG6 (io), 134 XA8/PH0 (io), 135 XA9/PH1 (io), 136 XA10/PH2 (io), 138 XA11/PH3 (io), 139 XA12/PH4 (io), 140 XA13/PH5 (io), 142 XA14/PH6 (io), 144 XA15/PH7 (io)
part B pins: 13 RTCCLK_N, 14 RTCCLK_P (in), 17 SYSCLK_P (in), 18 SYSCLK_N, 54 RESET_N (in), 80 NC, 137 TEST1 (in), 141 TEST2 (in)
part C pins: 3 VDD_CORE (power), 5 VDD_IO (power), 7 GNDPLL (power), 8 GNDPLL (power), 10 VDD_PLL (power), 11 VDD_PLL (power), 15 GND (power), 16 GND (power), 25 VDD_IO (power), 34 VDD_CORE (power), 38 GND (power), 46 VDD_IO (power), 52 GND (power), 53 GND (power), 63 VDD_IO (power), 71 GND (power), 75 VDD_CORE (power), 81 GND (power), 85 VDD_IO (power), 99 GND (power), 101 VDD_IO (power), 106 VDD_CORE (power), 110 GND (power), 122 VDD_IO (power), 124 GND (power), 126 GND (power), 128 VDD_IO (power), 143 GND (power)

## ML67Q4060HA
designator U?
ARM7TDMI 32-Bit Microcontroller, 64KB Flash ROM, 64-pin WCSP; Published: 12-Dec-2006; DatasheetVersion: rev1.2, Jun-2006; PackageVersion: Jun-2006; PackageReference: P-VFBGA64-5.09x4.84-0.50-W; Publisher: Altium Limited; PackageDescription: 64-Ball Ball Grid Array 0.5 mm Pitch; ComponentLink1Description: Manufacturer Link; ComponentLink1URL: http://www2.okisemi.com/; ComponentLink2Description: Datasheet; ComponentLink2URL: http://www2.okisemi.com/site/datasheets/ML67Q4050_4060-DS_rev1.2.pdf
footprint P-VFBGA64-5.09x4.84-0.50-W (BGA, 64-Leads, Body 4.8x5.1mm, Pitch 0.5mm)
part A pins: A1 JTAGE/PA5 (io), A2 NTRST/PA4 (io), A3 BS/PD4 (io), A4 RSTOUT_N/PA6/MCLK (io), A5 PC5/MOSI1/DSR1 (io), A6 PC2/SCK0/RI0 (io), A7 PC0/MISO0/DSR0 (io), A8 BOOTCLK/PD5 (io), B2 PE6/SCK (io), B3 PE5/WS (io), B4 PC6/SCK1/RI1 (io), B6 PC3/SSN0/DCD0 (io), C3 TDO/PA3 (io), C4 PC7/SSN1/DCD1 (io), C5 TDI/PA2 (io), C6 PC4/MISO1/DSR1 (io), C7 PF4/TIMER4/EXINT4 (io), C8 PF5/TIMER5/EXINT5 (io), D3 TCK/PA0 (io), D4 TMS/PA1 (io), D5 PC1/MOSI0/DTR0 (io), D6 PF3/TIMER3/RTS1 (io), D7 PF1/TIMER1/RTS0 (io), D8 PF2/TIMER2/CTS1 (io), E4 PF0/TIMER0/CTS0 (io), E5 PB1/RX0 (io), E6 PB2/TX1/EFIQ_N (io), E7 BOOT0/PE3/MCLK (io), E8 PE4/SD (io), F4 PD2/AIN2 (io), F5 PD1/AIN1/EXINT3 (io), F6 PE2 (io), F7 PB5/SDA/RXD (io), F8 PB0/TX0 (io), G4 PD3/AIN3 (io), G5 PD0/AIN0/EXINT2 (io), G7 PE0 (io), G8 PB4/SCL/TXD (io), H6 PE1 (io), H8 PB3/RX1/EXINT1 (io)
part B pins: B5 RESET_N (in), B8 NC, C1 SYSCLK_N, D1 SYSCLK_P (in), F1 RTCCLK_P (in), F3 TEST2 (in), G1 RTCCLK_N, H4 TEST1 (in)
part C pins: B1 VDD_IO (power), B7 GND (power), C2 VDD_CORE (power), D2 GND (power), E1 GND (power), E2 VDD_IO (power), E3 VDD_IO (power), F2 VDD_CORE (power), G2 VDD_CORE (power), G3 GND (power), G6 GND (power), H1 VDD_CORE (power), H2 GNDPLL (power), H3 VDD_PLL (power), H5 VDD_IO (power), H7 VDD_IO (power)

## ML67Q4060LA
designator U?
ARM7TDMI 32-Bit Microcontroller, 64KB Flash ROM, 84-pin LFBGA; Published: 12-Dec-2006; DatasheetVersion: rev1.2, Jun-2006; PackageVersion: rev1, May-2000; PackageReference: P-LFBGA84-0909-0.80; Publisher: Altium Limited; PackageDescription: 84-Ball Ball Grid Array 0.8 mm Pitch; ComponentLink1Description: Manufacturer Link; ComponentLink1URL: http://www2.okisemi.com/; ComponentLink2Description: Datasheet; ComponentLink2URL: http://www2.okisemi.com/site/datasheets/ML67Q4050_4060-DS_rev1.2.pdf
footprint P-LFBGA84-0909-0.80 (BGA, 84-Leads, Body 9x9mm, Pitch 0.8mm)
part A pins: A5 PD2/AIN2 (io), A7 PE1 (io), A9 PB3/RX1/EXINT1 (io), B4 PD3/AIN3 (io), B5 PD0/AIN0/EXINT2 (io), B7 PE0 (io), B8 PB4/SCL/TXD (io), C5 PD1/AIN1/EXINT3 (io), C6 PE2 (io), C8 PB5/SDA/RXD (io), D9 PB0/TX0 (io), E8 PB2/TX1/EFIQ_N (io), E9 BOOT0/PE3/MCLK (io), E10 PB1/RX0 (io), F1 TMS/PA1 (io), F3 TCK/PA0 (io), F8 PF0/TIMER0/CTS0 (io), F9 PF1/TIMER1/RTS0 (io), F10 PE4/SD (io), G2 TDI/PA2 (io), G3 TDO/PA3 (io), G8 PF3/TIMER3/RTS1 (io), G9 PF4/TIMER4/EXINT4 (io), G10 PF2/TIMER2/CTS1 (io), H1 JTAGE/PA5 (io), H2 NTRST/PA4 (io), H4 PC6/SCK1/RI1 (io), H6 PC4/MISO1/DSR1 (io), H7 PC1/MOSI0/DTR0 (io), H10 PF5/TIMER5/EXINT5 (io), J3 PE5/WS (io), J4 PC7/SSN1/DCD1 (io), J6 PC5/MOSI1/DSR1 (io), J7 PC2/SCK0/RI0 (io), J8 PC0/MISO0/DSR0 (io), K2 PE6/SCK (io), K3 BS/PD4 (io), K4 RSTOUT_N/PA6/MCLK (io), K6 PC3/SSN0/DCD0 (io), K8 BOOTCLK/PD5 (io)
part B pins: A4 TEST2 (in), C4 TEST1 (in), D1 RTCCLK_P (in), D3 RTCCLK_N, E1 SYSCLK_P (in), F2 SYSCLK_N, K5 RESET_N (in)
part C pins: A1 VDD_CORE (power), A6 VDD_IO (power), A8 VDD_IO (power), A10 GND (power), B1 VDD_IO (power), B3 GND (power), B6 GND (power), C1 VDD_PLL (power), C2 GNDPLL (power), C3 GNDPLL (power), C7 GND (power), C9 VDD_CORE (power), D2 VDD_PLL (power), D8 GND (power), D10 VDD_IO (power), E2 GND (power), E3 GND (power), G1 VDD_IO (power), H3 VDD_IO (power), H5 GND (power), H8 VDD_IO (power), H9 GND (power), J2 VDD_CORE (power), J5 GND (power), J9 GND (power), K1 GND (power), K7 VDD_IO (power), K10 VDD_CORE (power)
part D pins: A2 NC, A3 NC, B2 NC, B9 NC, B10 NC, C10 NC, J1 NC, J10 NC, K9 NC

## ML67Q4060TB
designator U?
ARM7TDMI 32-Bit Microcontroller, 64KB Flash ROM, 64-pin TQFP; Published: 12-Dec-2006; DatasheetVersion: rev1.2, Jun-2006; PackageVersion: rev4, Oct-1996; PackageReference: TQFP64-P-1010-0.50-K; Publisher: Altium Limited; PackageDescription: 64-Pin Thin Quad Flat Pack 0.5 mm Pitch; ComponentLink1Description: Manufacturer Link; ComponentLink1URL: http://www2.okisemi.com/; ComponentLink2Description: Datasheet; ComponentLink2URL: http://www2.okisemi.com/site/datasheets/ML67Q4050_4060-DS_rev1.2.pdf
footprint TQFP64-P-1010-0.50-K_N (Thin QFP, 64-Leads, Body 10x10mm, Pitch 0.5mm, IPC Medium Density)
footprint TQFP64-P-1010-0.50-K_L (Thin QFP, 64-Leads, Body 10x10mm, Pitch 0.5mm, IPC High Density)
footprint TQFP64-P-1010-0.50-K_M (Thin QFP, 64-Leads, Body 10x10mm, Pitch 0.5mm, IPC Low Density)
part A pins: 9 TCK/PA0 (io), 10 TMS/PA1 (io), 11 TDI/PA2 (io), 12 TDO/PA3 (io), 14 NTRST/PA4 (io), 15 JTAGE/PA5 (io), 17 PE6/SCK (io), 18 PE5/WS (io), 19 BS/PD4 (io), 20 PC7/SSN1/DCD1 (io), 21 PC6/SCK1/RI1 (io), 22 RSTOUT_N/PA6/MCLK (io), 25 PC5/MOSI1/DSR1 (io), 26 PC4/MISO1/DSR1 (io), 27 PC3/SSN0/DCD0 (io), 28 PC2/SCK0/RI0 (io), 29 PC1/MOSI0/DTR0 (io), 31 PC0/MISO0/DSR0 (io), 32 BOOTCLK/PD5 (io), 36 PF5/TIMER5/EXINT5 (io), 37 PF4/TIMER4/EXINT4 (io), 38 PF3/TIMER3/RTS1 (io), 39 PF2/TIMER2/CTS1 (io), 40 PF1/TIMER1/RTS0 (io), 41 PF0/TIMER0/CTS0 (io), 42 PE4/SD (io), 43 BOOT0/PE3/MCLK (io), 44 PB2/TX1/EFIQ_N (io), 45 PB1/RX0 (io), 46 PB0/TX0 (io), 49 PB3/RX1/EXINT1 (io), 50 PB4/SCL/TXD (io), 51 PB5/SDA/RXD (io), 53 PE0 (io), 55 PE1 (io), 57 PE2 (io), 59 PD0/AIN0/EXINT2 (io), 60 PD1/AIN1/EXINT3 (io), 61 PD2/AIN2 (io), 62 PD3/AIN3 (io)
part B pins: 4 RTCCLK_N, 5 RTCCLK_P (in), 7 SYSCLK_P (in), 8 SYSCLK_N, 24 RESET_N (in), 34 NC, 63 TEST1 (in), 64 TEST2 (in)
part C pins: 1 VDD_CORE (power), 2 GNDPLL (power), 3 VDD_PLL (power), 6 GND (power), 13 VDD_IO (power), 16 VDD_CORE (power), 23 GND (power), 30 VDD_IO (power), 33 VDD_CORE (power), 35 GND (power), 47 VDD_IO (power), 48 VDD_CORE (power), 52 VDD_IO (power), 54 GND (power), 56 GND (power), 58 VDD_IO (power)

## ML67Q4061HA
designator U?
ARM7TDMI 32-Bit Microcontroller, 128KB Flash ROM, 64-pin WCSP; Published: 12-Dec-2006; DatasheetVersion: rev1.2, Jun-2006; PackageVersion: Jun-2006; PackageReference: P-VFBGA64-5.09x4.84-0.50-W; Publisher: Altium Limited; PackageDescription: 64-Ball Ball Grid Array 0.5 mm Pitch; ComponentLink1Description: Manufacturer Link; ComponentLink1URL: http://www2.okisemi.com/; ComponentLink2Description: Datasheet; ComponentLink2URL: http://www2.okisemi.com/site/datasheets/ML67Q4050_4060-DS_rev1.2.pdf
footprint P-VFBGA64-5.09x4.84-0.50-W (BGA, 64-Leads, Body 4.8x5.1mm, Pitch 0.5mm)
part A pins: A1 JTAGE/PA5 (io), A2 NTRST/PA4 (io), A3 BS/PD4 (io), A4 RSTOUT_N/PA6/MCLK (io), A5 PC5/MOSI1/DSR1 (io), A6 PC2/SCK0/RI0 (io), A7 PC0/MISO0/DSR0 (io), A8 BOOTCLK/PD5 (io), B2 PE6/SCK (io), B3 PE5/WS (io), B4 PC6/SCK1/RI1 (io), B6 PC3/SSN0/DCD0 (io), C3 TDO/PA3 (io), C4 PC7/SSN1/DCD1 (io), C5 TDI/PA2 (io), C6 PC4/MISO1/DSR1 (io), C7 PF4/TIMER4/EXINT4 (io), C8 PF5/TIMER5/EXINT5 (io), D3 TCK/PA0 (io), D4 TMS/PA1 (io), D5 PC1/MOSI0/DTR0 (io), D6 PF3/TIMER3/RTS1 (io), D7 PF1/TIMER1/RTS0 (io), D8 PF2/TIMER2/CTS1 (io), E4 PF0/TIMER0/CTS0 (io), E5 PB1/RX0 (io), E6 PB2/TX1/EFIQ_N (io), E7 BOOT0/PE3/MCLK (io), E8 PE4/SD (io), F4 PD2/AIN2 (io), F5 PD1/AIN1/EXINT3 (io), F6 PE2 (io), F7 PB5/SDA/RXD (io), F8 PB0/TX0 (io), G4 PD3/AIN3 (io), G5 PD0/AIN0/EXINT2 (io), G7 PE0 (io), G8 PB4/SCL/TXD (io), H6 PE1 (io), H8 PB3/RX1/EXINT1 (io)
part B pins: B5 RESET_N (in), B8 NC, C1 SYSCLK_N, D1 SYSCLK_P (in), F1 RTCCLK_P (in), F3 TEST2 (in), G1 RTCCLK_N, H4 TEST1 (in)
part C pins: B1 VDD_IO (power), B7 GND (power), C2 VDD_CORE (power), D2 GND (power), E1 GND (power), E2 VDD_IO (power), E3 VDD_IO (power), F2 VDD_CORE (power), G2 VDD_CORE (power), G3 GND (power), G6 GND (power), H1 VDD_CORE (power), H2 GNDPLL (power), H3 VDD_PLL (power), H5 VDD_IO (power), H7 VDD_IO (power)

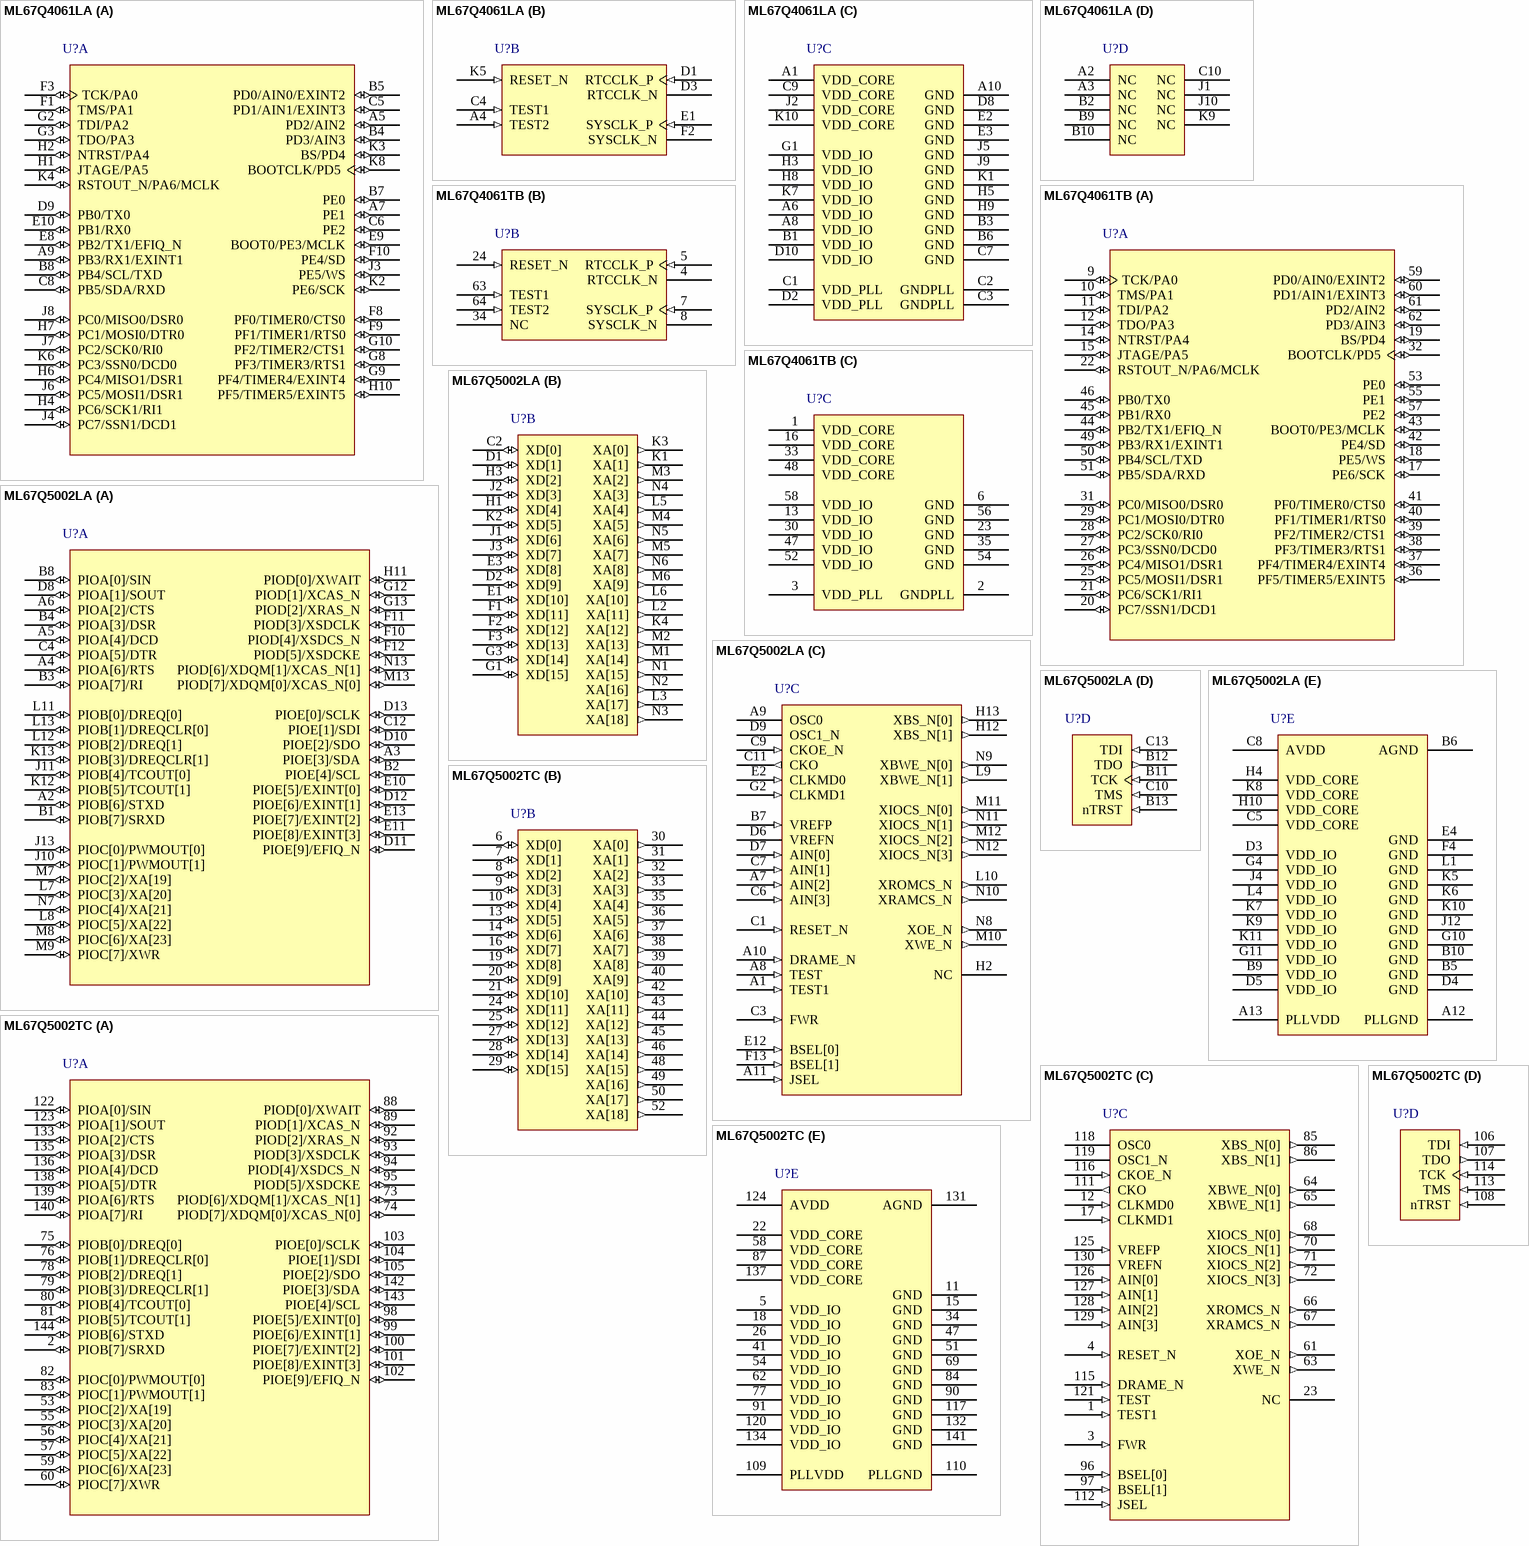
[diagram p3: symbols ML67Q4061LA to ML67Q5002TC]

## ML67Q4061LA
designator U?
ARM7TDMI 32-Bit Microcontroller, 128KB Flash ROM, 84-pin LFBGA; Published: 12-Dec-2006; DatasheetVersion: rev1.2, Jun-2006; PackageVersion: rev1, May-2000; PackageReference: P-LFBGA84-0909-0.80; Publisher: Altium Limited; PackageDescription: 84-Ball Ball Grid Array 0.8 mm Pitch; ComponentLink1Description: Manufacturer Link; ComponentLink1URL: http://www2.okisemi.com/; ComponentLink2Description: Datasheet; ComponentLink2URL: http://www2.okisemi.com/site/datasheets/ML67Q4050_4060-DS_rev1.2.pdf
footprint P-LFBGA84-0909-0.80 (BGA, 84-Leads, Body 9x9mm, Pitch 0.8mm)
part A pins: A5 PD2/AIN2 (io), A7 PE1 (io), A9 PB3/RX1/EXINT1 (io), B4 PD3/AIN3 (io), B5 PD0/AIN0/EXINT2 (io), B7 PE0 (io), B8 PB4/SCL/TXD (io), C5 PD1/AIN1/EXINT3 (io), C6 PE2 (io), C8 PB5/SDA/RXD (io), D9 PB0/TX0 (io), E8 PB2/TX1/EFIQ_N (io), E9 BOOT0/PE3/MCLK (io), E10 PB1/RX0 (io), F1 TMS/PA1 (io), F3 TCK/PA0 (io), F8 PF0/TIMER0/CTS0 (io), F9 PF1/TIMER1/RTS0 (io), F10 PE4/SD (io), G2 TDI/PA2 (io), G3 TDO/PA3 (io), G8 PF3/TIMER3/RTS1 (io), G9 PF4/TIMER4/EXINT4 (io), G10 PF2/TIMER2/CTS1 (io), H1 JTAGE/PA5 (io), H2 NTRST/PA4 (io), H4 PC6/SCK1/RI1 (io), H6 PC4/MISO1/DSR1 (io), H7 PC1/MOSI0/DTR0 (io), H10 PF5/TIMER5/EXINT5 (io), J3 PE5/WS (io), J4 PC7/SSN1/DCD1 (io), J6 PC5/MOSI1/DSR1 (io), J7 PC2/SCK0/RI0 (io), J8 PC0/MISO0/DSR0 (io), K2 PE6/SCK (io), K3 BS/PD4 (io), K4 RSTOUT_N/PA6/MCLK (io), K6 PC3/SSN0/DCD0 (io), K8 BOOTCLK/PD5 (io)
part B pins: A4 TEST2 (in), C4 TEST1 (in), D1 RTCCLK_P (in), D3 RTCCLK_N, E1 SYSCLK_P (in), F2 SYSCLK_N, K5 RESET_N (in)
part C pins: A1 VDD_CORE (power), A6 VDD_IO (power), A8 VDD_IO (power), A10 GND (power), B1 VDD_IO (power), B3 GND (power), B6 GND (power), C1 VDD_PLL (power), C2 GNDPLL (power), C3 GNDPLL (power), C7 GND (power), C9 VDD_CORE (power), D2 VDD_PLL (power), D8 GND (power), D10 VDD_IO (power), E2 GND (power), E3 GND (power), G1 VDD_IO (power), H3 VDD_IO (power), H5 GND (power), H8 VDD_IO (power), H9 GND (power), J2 VDD_CORE (power), J5 GND (power), J9 GND (power), K1 GND (power), K7 VDD_IO (power), K10 VDD_CORE (power)
part D pins: A2 NC, A3 NC, B2 NC, B9 NC, B10 NC, C10 NC, J1 NC, J10 NC, K9 NC

## ML67Q4061TB
designator U?
ARM7TDMI 32-Bit Microcontroller, 128KB Flash ROM, 64-pin TQFP; Published: 12-Dec-2006; DatasheetVersion: rev1.2, Jun-2006; PackageVersion: rev4, Oct-1996; PackageReference: TQFP64-P-1010-0.50-K; Publisher: Altium Limited; PackageDescription: 64-Pin Thin Quad Flat Pack 0.5 mm Pitch; ComponentLink1Description: Manufacturer Link; ComponentLink1URL: http://www2.okisemi.com/; ComponentLink2Description: Datasheet; ComponentLink2URL: http://www2.okisemi.com/site/datasheets/ML67Q4050_4060-DS_rev1.2.pdf
footprint TQFP64-P-1010-0.50-K_N (Thin QFP, 64-Leads, Body 10x10mm, Pitch 0.5mm, IPC Medium Density)
footprint TQFP64-P-1010-0.50-K_L (Thin QFP, 64-Leads, Body 10x10mm, Pitch 0.5mm, IPC High Density)
footprint TQFP64-P-1010-0.50-K_M (Thin QFP, 64-Leads, Body 10x10mm, Pitch 0.5mm, IPC Low Density)
part A pins: 9 TCK/PA0 (io), 10 TMS/PA1 (io), 11 TDI/PA2 (io), 12 TDO/PA3 (io), 14 NTRST/PA4 (io), 15 JTAGE/PA5 (io), 17 PE6/SCK (io), 18 PE5/WS (io), 19 BS/PD4 (io), 20 PC7/SSN1/DCD1 (io), 21 PC6/SCK1/RI1 (io), 22 RSTOUT_N/PA6/MCLK (io), 25 PC5/MOSI1/DSR1 (io), 26 PC4/MISO1/DSR1 (io), 27 PC3/SSN0/DCD0 (io), 28 PC2/SCK0/RI0 (io), 29 PC1/MOSI0/DTR0 (io), 31 PC0/MISO0/DSR0 (io), 32 BOOTCLK/PD5 (io), 36 PF5/TIMER5/EXINT5 (io), 37 PF4/TIMER4/EXINT4 (io), 38 PF3/TIMER3/RTS1 (io), 39 PF2/TIMER2/CTS1 (io), 40 PF1/TIMER1/RTS0 (io), 41 PF0/TIMER0/CTS0 (io), 42 PE4/SD (io), 43 BOOT0/PE3/MCLK (io), 44 PB2/TX1/EFIQ_N (io), 45 PB1/RX0 (io), 46 PB0/TX0 (io), 49 PB3/RX1/EXINT1 (io), 50 PB4/SCL/TXD (io), 51 PB5/SDA/RXD (io), 53 PE0 (io), 55 PE1 (io), 57 PE2 (io), 59 PD0/AIN0/EXINT2 (io), 60 PD1/AIN1/EXINT3 (io), 61 PD2/AIN2 (io), 62 PD3/AIN3 (io)
part B pins: 4 RTCCLK_N, 5 RTCCLK_P (in), 7 SYSCLK_P (in), 8 SYSCLK_N, 24 RESET_N (in), 34 NC, 63 TEST1 (in), 64 TEST2 (in)
part C pins: 1 VDD_CORE (power), 2 GNDPLL (power), 3 VDD_PLL (power), 6 GND (power), 13 VDD_IO (power), 16 VDD_CORE (power), 23 GND (power), 30 VDD_IO (power), 33 VDD_CORE (power), 35 GND (power), 47 VDD_IO (power), 48 VDD_CORE (power), 52 VDD_IO (power), 54 GND (power), 56 GND (power), 58 VDD_IO (power)

## ML67Q5002LA
designator U?
ARM7TDMI 32-Bit Microcontroller, 256KB Flash ROM, 144-pin LFBGA; Published: 12-Dec-2006; DatasheetVersion: rev2.0, Apr-2004; PackageVersion: Apr-2004; PackageReference: P-L-FBGA144-1111-0.80; Publisher: Altium Limited; PackageDescription: 144-Ball Plastic Ball Grid Array 0.8 mm Pitch; ComponentLink1Description: Manufacturer Link; ComponentLink1URL: http://www2.okisemi.com/; ComponentLink2Description: Datasheet; ComponentLink2URL: http://www2.okisemi.com/site/datasheets/ML675001_2_3_DS.pdf
footprint P-L-FBGA144-1111-0.80 (BGA, 144-Leads, Body 11x11mm, Pitch 0.8mm)
part A pins: A2 PIOB[6]/STXD (io), A3 PIOE[3]/SDA (io), A4 PIOA[6]/RTS (io), A5 PIOA[4]/DCD (io), A6 PIOA[2]/CTS (io), B1 PIOB[7]/SRXD (io), B2 PIOE[4]/SCL (io), B3 PIOA[7]/RI (io), B4 PIOA[3]/DSR (io), B8 PIOA[0]/SIN (io), C4 PIOA[5]/DTR (io), C12 PIOE[1]/SDI (io), D8 PIOA[1]/SOUT (io), D10 PIOE[2]/SDO (io), D11 PIOE[9]/EFIQ_N (io), D12 PIOE[6]/EXINT[1] (io), D13 PIOE[0]/SCLK (io), E10 PIOE[5]/EXINT[0] (io), E11 PIOE[8]/EXINT[3] (io), E13 PIOE[7]/EXINT[2] (io), F10 PIOD[4]/XSDCS_N (io), F11 PIOD[3]/XSDCLK (io), F12 PIOD[5]/XSDCKE (io), G12 PIOD[1]/XCAS_N (io), G13 PIOD[2]/XRAS_N (io), H11 PIOD[0]/XWAIT (io), J10 PIOC[1]/PWMOUT[1] (io), J11 PIOB[4]/TCOUT[0] (io), J13 PIOC[0]/PWMOUT[0] (io), K12 PIOB[5]/TCOUT[1] (io), K13 PIOB[3]/DREQCLR[1] (io), L7 PIOC[3]/XA[20] (io), L8 PIOC[5]/XA[22] (io), L11 PIOB[0]/DREQ[0] (io), L12 PIOB[2]/DREQ[1] (io), L13 PIOB[1]/DREQCLR[0] (io), M7 PIOC[2]/XA[19] (io), M8 PIOC[6]/XA[23] (io), M9 PIOC[7]/XWR (io), M13 PIOD[7]/XDQM[0]/XCAS_N[0] (io), N7 PIOC[4]/XA[21] (io), N13 PIOD[6]/XDQM[1]/XCAS_N[1] (io)
part B pins: C2 XD[0] (io), D1 XD[1] (io), D2 XD[9] (io), E1 XD[10] (io), E3 XD[8] (io), F1 XD[11] (io), F2 XD[12] (io), F3 XD[13] (io), G1 XD[15] (io), G3 XD[14] (io), H1 XD[4] (io), H3 XD[2] (io), J1 XD[6] (io), J2 XD[3] (io), J3 XD[7] (io), K1 XA[1] (out), K2 XD[5] (io), K3 XA[0] (out), K4 XA[12] (out), L2 XA[11] (out), L3 XA[17] (out), L5 XA[4] (out), L6 XA[10] (out), M1 XA[14] (out), M2 XA[13] (out), M3 XA[2] (out), M4 XA[5] (out), M5 XA[7] (out), M6 XA[9] (out), N1 XA[15] (out), N2 XA[16] (out), N3 XA[18] (out), N4 XA[3] (out), N5 XA[6] (out), N6 XA[8] (out)
part C pins: A1 TEST1 (in), A7 AIN[2] (in), A8 TEST (in), A9 OSC0, A10 DRAME_N (in), A11 JSEL (in), B7 VREFP (in), C1 RESET_N (in), C3 FWR (in), C6 AIN[3] (in), C7 AIN[1] (in), C9 CKOE_N (in), C11 CKO (out), D6 VREFN (power), D7 AIN[0] (in), D9 OSC1_N, E2 CLKMD0 (in), E12 BSEL[0] (in), F13 BSEL[1] (in), G2 CLKMD1 (in), H2 NC, H12 XBS_N[1] (out), H13 XBS_N[0] (out), L9 XBWE_N[1] (out), L10 XROMCS_N (out), M10 XWE_N (out), M11 XIOCS_N[0] (out), M12 XIOCS_N[2] (out), N8 XOE_N (out), N9 XBWE_N[0] (out), N10 XRAMCS_N (out), N11 XIOCS_N[1] (out), N12 XIOCS_N[3] (out)
part D pins: B11 TCK (in), B12 TDO (out), B13 nTRST (in), C10 TMS (in), C13 TDI (in)
part E pins: A12 PLLGND (power), A13 PLLVDD (power), B5 GND (power), B6 AGND (power), B9 VDD_IO (power), B10 GND (power), C5 VDD_CORE (power), C8 AVDD (power), D3 VDD_IO (power), D4 GND (power), D5 VDD_IO (power), E4 GND (power), F4 GND (power), G4 VDD_IO (power), G10 GND (power), G11 VDD_IO (power), H4 VDD_CORE (power), H10 VDD_CORE (power), J4 VDD_IO (power), J12 GND (power), K5 GND (power), K6 GND (power), K7 VDD_IO (power), K8 VDD_CORE (power), K9 VDD_IO (power), K10 GND (power), K11 VDD_IO (power), L1 GND (power), L4 VDD_IO (power)

## ML67Q5002TC
designator U?
ARM7TDMI 32-Bit Microcontroller, 256KB Flash ROM, 144-pin LQFP; Published: 12-Dec-2006; DatasheetVersion: rev2.0, Apr-2004; PackageVersion: rev5, Nov-1996; PackageReference: LQFP144-P-2020-0.50-K; Publisher: Altium Limited; PackageDescription: 144-Pin Plastic Shrink Quad Flat Pack 0.5 mm Pitch; Code_IPC: SQFP50P2200X2200-144; ComponentLink1Description: Manufacturer Link; ComponentLink1URL: http://www2.okisemi.com/; ComponentLink2Description: Datasheet; ComponentLink2URL: http://www2.okisemi.com/site/datasheets/ML675001_2_3_DS.pdf
footprint LQFP144-P-2020-0.50-K_N (Shrink QFP, 144-Leads, Body 20x20mm, Pitch 0.5mm, IPC Medium Density)
footprint LQFP144-P-2020-0.50-K_L (Shrink QFP, 144-Leads, Body 20x20mm, Pitch 0.5mm, IPC High Density)
footprint LQFP144-P-2020-0.50-K_M (Shrink QFP, 144-Leads, Body 20x20mm, Pitch 0.5mm, IPC Low Density)
part A pins: 2 PIOB[7]/SRXD (io), 53 PIOC[2]/XA[19] (io), 55 PIOC[3]/XA[20] (io), 56 PIOC[4]/XA[21] (io), 57 PIOC[5]/XA[22] (io), 59 PIOC[6]/XA[23] (io), 60 PIOC[7]/XWR (io), 73 PIOD[6]/XDQM[1]/XCAS_N[1] (io), 74 PIOD[7]/XDQM[0]/XCAS_N[0] (io), 75 PIOB[0]/DREQ[0] (io), 76 PIOB[1]/DREQCLR[0] (io), 78 PIOB[2]/DREQ[1] (io), 79 PIOB[3]/DREQCLR[1] (io), 80 PIOB[4]/TCOUT[0] (io), 81 PIOB[5]/TCOUT[1] (io), 82 PIOC[0]/PWMOUT[0] (io), 83 PIOC[1]/PWMOUT[1] (io), 88 PIOD[0]/XWAIT (io), 89 PIOD[1]/XCAS_N (io), 92 PIOD[2]/XRAS_N (io), 93 PIOD[3]/XSDCLK (io), 94 PIOD[4]/XSDCS_N (io), 95 PIOD[5]/XSDCKE (io), 98 PIOE[5]/EXINT[0] (io), 99 PIOE[6]/EXINT[1] (io), 100 PIOE[7]/EXINT[2] (io), 101 PIOE[8]/EXINT[3] (io), 102 PIOE[9]/EFIQ_N (io), 103 PIOE[0]/SCLK (io), 104 PIOE[1]/SDI (io), 105 PIOE[2]/SDO (io), 122 PIOA[0]/SIN (io), 123 PIOA[1]/SOUT (io), 133 PIOA[2]/CTS (io), 135 PIOA[3]/DSR (io), 136 PIOA[4]/DCD (io), 138 PIOA[5]/DTR (io), 139 PIOA[6]/RTS (io), 140 PIOA[7]/RI (io), 142 PIOE[3]/SDA (io), 143 PIOE[4]/SCL (io), 144 PIOB[6]/STXD (io)
part B pins: 6 XD[0] (io), 7 XD[1] (io), 8 XD[2] (io), 9 XD[3] (io), 10 XD[4] (io), 13 XD[5] (io), 14 XD[6] (io), 16 XD[7] (io), 19 XD[8] (io), 20 XD[9] (io), 21 XD[10] (io), 24 XD[11] (io), 25 XD[12] (io), 27 XD[13] (io), 28 XD[14] (io), 29 XD[15] (io), 30 XA[0] (out), 31 XA[1] (out), 32 XA[2] (out), 33 XA[3] (out), 35 XA[4] (out), 36 XA[5] (out), 37 XA[6] (out), 38 XA[7] (out), 39 XA[8] (out), 40 XA[9] (out), 42 XA[10] (out), 43 XA[11] (out), 44 XA[12] (out), 45 XA[13] (out), 46 XA[14] (out), 48 XA[15] (out), 49 XA[16] (out), 50 XA[17] (out), 52 XA[18] (out)
part C pins: 1 TEST1 (in), 3 FWR (in), 4 RESET_N (in), 12 CLKMD0 (in), 17 CLKMD1 (in), 23 NC, 61 XOE_N (out), 63 XWE_N (out), 64 XBWE_N[0] (out), 65 XBWE_N[1] (out), 66 XROMCS_N (out), 67 XRAMCS_N (out), 68 XIOCS_N[0] (out), 70 XIOCS_N[1] (out), 71 XIOCS_N[2] (out), 72 XIOCS_N[3] (out), 85 XBS_N[0] (out), 86 XBS_N[1] (out), 96 BSEL[0] (in), 97 BSEL[1] (in), 111 CKO (out), 112 JSEL (in), 115 DRAME_N (in), 116 CKOE_N (in), 118 OSC0, 119 OSC1_N, 121 TEST (in), 125 VREFP (in), 126 AIN[0] (in), 127 AIN[1] (in), 128 AIN[2] (in), 129 AIN[3] (in), 130 VREFN (power)
part D pins: 106 TDI (in), 107 TDO (out), 108 nTRST (in), 113 TMS (in), 114 TCK (in)
part E pins: 5 VDD_IO (power), 11 GND (power), 15 GND (power), 18 VDD_IO (power), 22 VDD_CORE (power), 26 VDD_IO (power), 34 GND (power), 41 VDD_IO (power), 47 GND (power), 51 GND (power), 54 VDD_IO (power), 58 VDD_CORE (power), 62 VDD_IO (power), 69 GND (power), 77 VDD_IO (power), 84 GND (power), 87 VDD_CORE (power), 90 GND (power), 91 VDD_IO (power), 109 PLLVDD (power), 110 PLLGND (power), 117 GND (power), 120 VDD_IO (power), 124 AVDD (power), 131 AGND (power), 132 GND (power), 134 VDD_IO (power), 137 VDD_CORE (power), 141 GND (power)

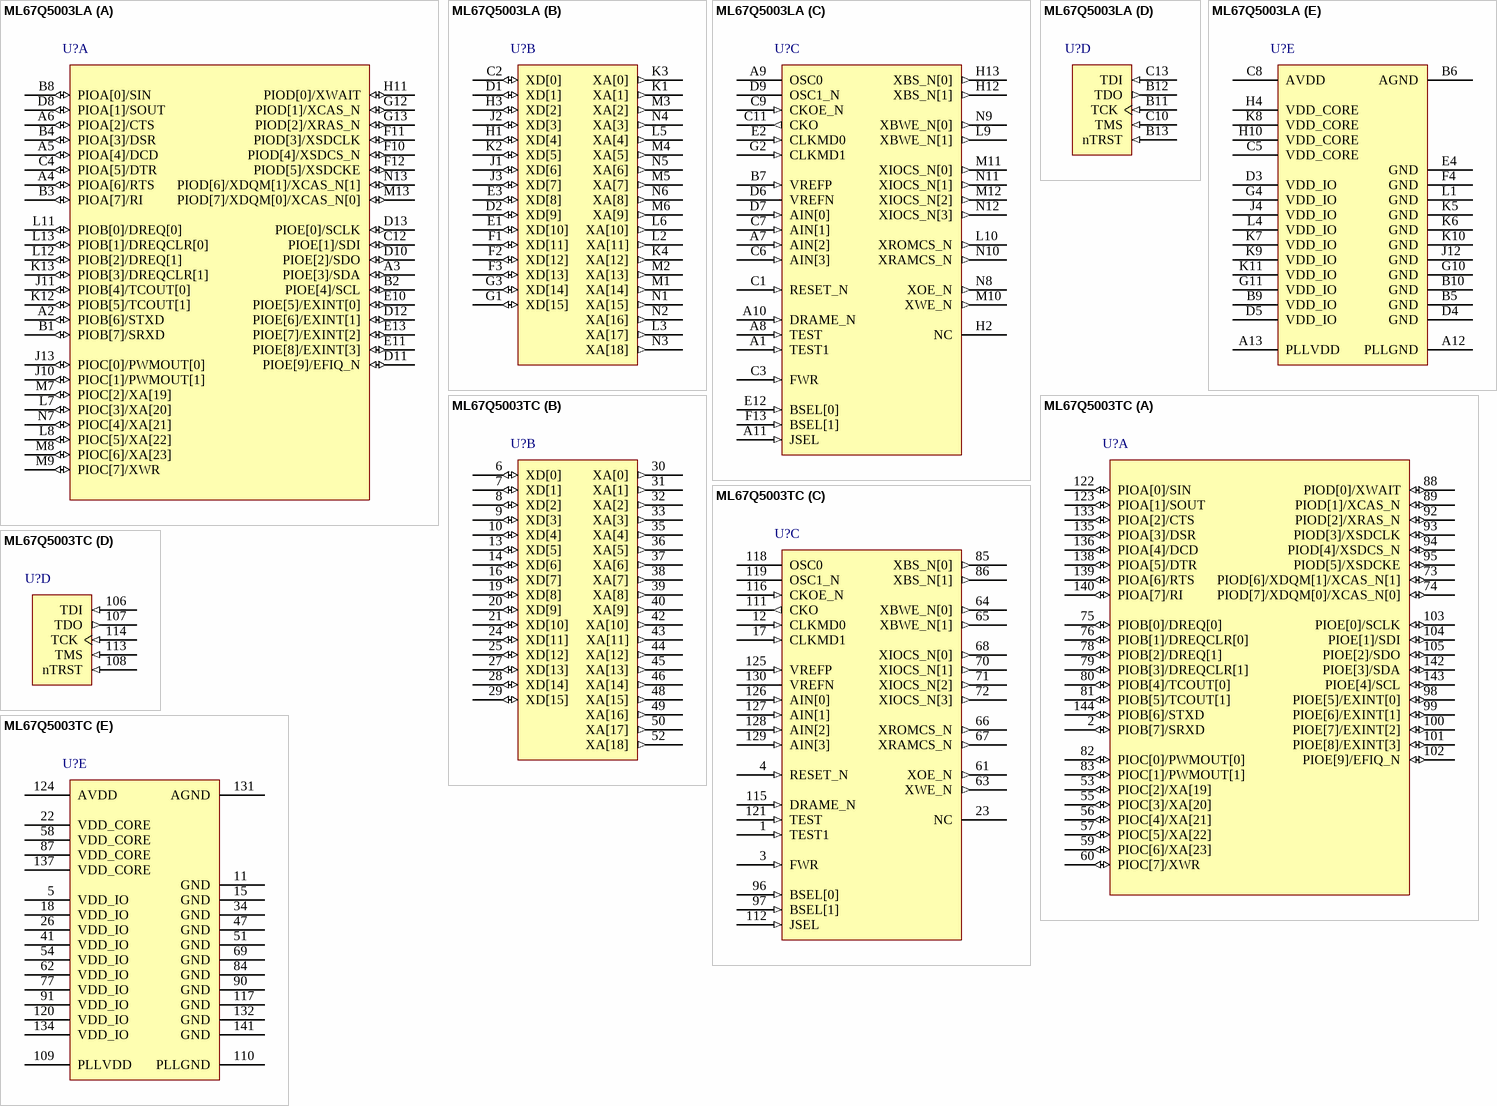
[diagram p4: symbols ML67Q5003LA to ML67Q5003TC]

## ML67Q5003LA
designator U?
ARM7TDMI 32-Bit Microcontroller, 512KB Flash ROM, 144-pin LFBGA; Published: 12-Dec-2006; DatasheetVersion: rev2.0, Apr-2004; PackageVersion: Apr-2004; PackageReference: P-L-FBGA144-1111-0.80; Publisher: Altium Limited; PackageDescription: 144-Ball Plastic Ball Grid Array 0.8 mm Pitch; ComponentLink1Description: Manufacturer Link; ComponentLink1URL: http://www2.okisemi.com/; ComponentLink2Description: Datasheet; ComponentLink2URL: http://www2.okisemi.com/site/datasheets/ML675001_2_3_DS.pdf
footprint P-L-FBGA144-1111-0.80 (BGA, 144-Leads, Body 11x11mm, Pitch 0.8mm)
part A pins: A2 PIOB[6]/STXD (io), A3 PIOE[3]/SDA (io), A4 PIOA[6]/RTS (io), A5 PIOA[4]/DCD (io), A6 PIOA[2]/CTS (io), B1 PIOB[7]/SRXD (io), B2 PIOE[4]/SCL (io), B3 PIOA[7]/RI (io), B4 PIOA[3]/DSR (io), B8 PIOA[0]/SIN (io), C4 PIOA[5]/DTR (io), C12 PIOE[1]/SDI (io), D8 PIOA[1]/SOUT (io), D10 PIOE[2]/SDO (io), D11 PIOE[9]/EFIQ_N (io), D12 PIOE[6]/EXINT[1] (io), D13 PIOE[0]/SCLK (io), E10 PIOE[5]/EXINT[0] (io), E11 PIOE[8]/EXINT[3] (io), E13 PIOE[7]/EXINT[2] (io), F10 PIOD[4]/XSDCS_N (io), F11 PIOD[3]/XSDCLK (io), F12 PIOD[5]/XSDCKE (io), G12 PIOD[1]/XCAS_N (io), G13 PIOD[2]/XRAS_N (io), H11 PIOD[0]/XWAIT (io), J10 PIOC[1]/PWMOUT[1] (io), J11 PIOB[4]/TCOUT[0] (io), J13 PIOC[0]/PWMOUT[0] (io), K12 PIOB[5]/TCOUT[1] (io), K13 PIOB[3]/DREQCLR[1] (io), L7 PIOC[3]/XA[20] (io), L8 PIOC[5]/XA[22] (io), L11 PIOB[0]/DREQ[0] (io), L12 PIOB[2]/DREQ[1] (io), L13 PIOB[1]/DREQCLR[0] (io), M7 PIOC[2]/XA[19] (io), M8 PIOC[6]/XA[23] (io), M9 PIOC[7]/XWR (io), M13 PIOD[7]/XDQM[0]/XCAS_N[0] (io), N7 PIOC[4]/XA[21] (io), N13 PIOD[6]/XDQM[1]/XCAS_N[1] (io)
part B pins: C2 XD[0] (io), D1 XD[1] (io), D2 XD[9] (io), E1 XD[10] (io), E3 XD[8] (io), F1 XD[11] (io), F2 XD[12] (io), F3 XD[13] (io), G1 XD[15] (io), G3 XD[14] (io), H1 XD[4] (io), H3 XD[2] (io), J1 XD[6] (io), J2 XD[3] (io), J3 XD[7] (io), K1 XA[1] (out), K2 XD[5] (io), K3 XA[0] (out), K4 XA[12] (out), L2 XA[11] (out), L3 XA[17] (out), L5 XA[4] (out), L6 XA[10] (out), M1 XA[14] (out), M2 XA[13] (out), M3 XA[2] (out), M4 XA[5] (out), M5 XA[7] (out), M6 XA[9] (out), N1 XA[15] (out), N2 XA[16] (out), N3 XA[18] (out), N4 XA[3] (out), N5 XA[6] (out), N6 XA[8] (out)
part C pins: A1 TEST1 (in), A7 AIN[2] (in), A8 TEST (in), A9 OSC0, A10 DRAME_N (in), A11 JSEL (in), B7 VREFP (in), C1 RESET_N (in), C3 FWR (in), C6 AIN[3] (in), C7 AIN[1] (in), C9 CKOE_N (in), C11 CKO (out), D6 VREFN (power), D7 AIN[0] (in), D9 OSC1_N, E2 CLKMD0 (in), E12 BSEL[0] (in), F13 BSEL[1] (in), G2 CLKMD1 (in), H2 NC, H12 XBS_N[1] (out), H13 XBS_N[0] (out), L9 XBWE_N[1] (out), L10 XROMCS_N (out), M10 XWE_N (out), M11 XIOCS_N[0] (out), M12 XIOCS_N[2] (out), N8 XOE_N (out), N9 XBWE_N[0] (out), N10 XRAMCS_N (out), N11 XIOCS_N[1] (out), N12 XIOCS_N[3] (out)
part D pins: B11 TCK (in), B12 TDO (out), B13 nTRST (in), C10 TMS (in), C13 TDI (in)
part E pins: A12 PLLGND (power), A13 PLLVDD (power), B5 GND (power), B6 AGND (power), B9 VDD_IO (power), B10 GND (power), C5 VDD_CORE (power), C8 AVDD (power), D3 VDD_IO (power), D4 GND (power), D5 VDD_IO (power), E4 GND (power), F4 GND (power), G4 VDD_IO (power), G10 GND (power), G11 VDD_IO (power), H4 VDD_CORE (power), H10 VDD_CORE (power), J4 VDD_IO (power), J12 GND (power), K5 GND (power), K6 GND (power), K7 VDD_IO (power), K8 VDD_CORE (power), K9 VDD_IO (power), K10 GND (power), K11 VDD_IO (power), L1 GND (power), L4 VDD_IO (power)

## ML67Q5003TC
designator U?
ARM7TDMI 32-Bit Microcontroller, 512KB Flash ROM, 144-pin LQFP; Published: 12-Dec-2006; DatasheetVersion: rev2.0, Apr-2004; PackageVersion: rev5, Nov-1996; PackageReference: LQFP144-P-2020-0.50-K; Publisher: Altium Limited; PackageDescription: 144-Pin Plastic Shrink Quad Flat Pack 0.5 mm Pitch; Code_IPC: SQFP50P2200X2200-144; ComponentLink1Description: Manufacturer Link; ComponentLink1URL: http://www2.okisemi.com/; ComponentLink2Description: Datasheet; ComponentLink2URL: http://www2.okisemi.com/site/datasheets/ML675001_2_3_DS.pdf
footprint LQFP144-P-2020-0.50-K_N (Shrink QFP, 144-Leads, Body 20x20mm, Pitch 0.5mm, IPC Medium Density)
footprint LQFP144-P-2020-0.50-K_L (Shrink QFP, 144-Leads, Body 20x20mm, Pitch 0.5mm, IPC High Density)
footprint LQFP144-P-2020-0.50-K_M (Shrink QFP, 144-Leads, Body 20x20mm, Pitch 0.5mm, IPC Low Density)
part A pins: 2 PIOB[7]/SRXD (io), 53 PIOC[2]/XA[19] (io), 55 PIOC[3]/XA[20] (io), 56 PIOC[4]/XA[21] (io), 57 PIOC[5]/XA[22] (io), 59 PIOC[6]/XA[23] (io), 60 PIOC[7]/XWR (io), 73 PIOD[6]/XDQM[1]/XCAS_N[1] (io), 74 PIOD[7]/XDQM[0]/XCAS_N[0] (io), 75 PIOB[0]/DREQ[0] (io), 76 PIOB[1]/DREQCLR[0] (io), 78 PIOB[2]/DREQ[1] (io), 79 PIOB[3]/DREQCLR[1] (io), 80 PIOB[4]/TCOUT[0] (io), 81 PIOB[5]/TCOUT[1] (io), 82 PIOC[0]/PWMOUT[0] (io), 83 PIOC[1]/PWMOUT[1] (io), 88 PIOD[0]/XWAIT (io), 89 PIOD[1]/XCAS_N (io), 92 PIOD[2]/XRAS_N (io), 93 PIOD[3]/XSDCLK (io), 94 PIOD[4]/XSDCS_N (io), 95 PIOD[5]/XSDCKE (io), 98 PIOE[5]/EXINT[0] (io), 99 PIOE[6]/EXINT[1] (io), 100 PIOE[7]/EXINT[2] (io), 101 PIOE[8]/EXINT[3] (io), 102 PIOE[9]/EFIQ_N (io), 103 PIOE[0]/SCLK (io), 104 PIOE[1]/SDI (io), 105 PIOE[2]/SDO (io), 122 PIOA[0]/SIN (io), 123 PIOA[1]/SOUT (io), 133 PIOA[2]/CTS (io), 135 PIOA[3]/DSR (io), 136 PIOA[4]/DCD (io), 138 PIOA[5]/DTR (io), 139 PIOA[6]/RTS (io), 140 PIOA[7]/RI (io), 142 PIOE[3]/SDA (io), 143 PIOE[4]/SCL (io), 144 PIOB[6]/STXD (io)
part B pins: 6 XD[0] (io), 7 XD[1] (io), 8 XD[2] (io), 9 XD[3] (io), 10 XD[4] (io), 13 XD[5] (io), 14 XD[6] (io), 16 XD[7] (io), 19 XD[8] (io), 20 XD[9] (io), 21 XD[10] (io), 24 XD[11] (io), 25 XD[12] (io), 27 XD[13] (io), 28 XD[14] (io), 29 XD[15] (io), 30 XA[0] (out), 31 XA[1] (out), 32 XA[2] (out), 33 XA[3] (out), 35 XA[4] (out), 36 XA[5] (out), 37 XA[6] (out), 38 XA[7] (out), 39 XA[8] (out), 40 XA[9] (out), 42 XA[10] (out), 43 XA[11] (out), 44 XA[12] (out), 45 XA[13] (out), 46 XA[14] (out), 48 XA[15] (out), 49 XA[16] (out), 50 XA[17] (out), 52 XA[18] (out)
part C pins: 1 TEST1 (in), 3 FWR (in), 4 RESET_N (in), 12 CLKMD0 (in), 17 CLKMD1 (in), 23 NC, 61 XOE_N (out), 63 XWE_N (out), 64 XBWE_N[0] (out), 65 XBWE_N[1] (out), 66 XROMCS_N (out), 67 XRAMCS_N (out), 68 XIOCS_N[0] (out), 70 XIOCS_N[1] (out), 71 XIOCS_N[2] (out), 72 XIOCS_N[3] (out), 85 XBS_N[0] (out), 86 XBS_N[1] (out), 96 BSEL[0] (in), 97 BSEL[1] (in), 111 CKO (out), 112 JSEL (in), 115 DRAME_N (in), 116 CKOE_N (in), 118 OSC0, 119 OSC1_N, 121 TEST (in), 125 VREFP (in), 126 AIN[0] (in), 127 AIN[1] (in), 128 AIN[2] (in), 129 AIN[3] (in), 130 VREFN (power)
part D pins: 106 TDI (in), 107 TDO (out), 108 nTRST (in), 113 TMS (in), 114 TCK (in)
part E pins: 5 VDD_IO (power), 11 GND (power), 15 GND (power), 18 VDD_IO (power), 22 VDD_CORE (power), 26 VDD_IO (power), 34 GND (power), 41 VDD_IO (power), 47 GND (power), 51 GND (power), 54 VDD_IO (power), 58 VDD_CORE (power), 62 VDD_IO (power), 69 GND (power), 77 VDD_IO (power), 84 GND (power), 87 VDD_CORE (power), 90 GND (power), 91 VDD_IO (power), 109 PLLVDD (power), 110 PLLGND (power), 117 GND (power), 120 VDD_IO (power), 124 AVDD (power), 131 AGND (power), 132 GND (power), 134 VDD_IO (power), 137 VDD_CORE (power), 141 GND (power)

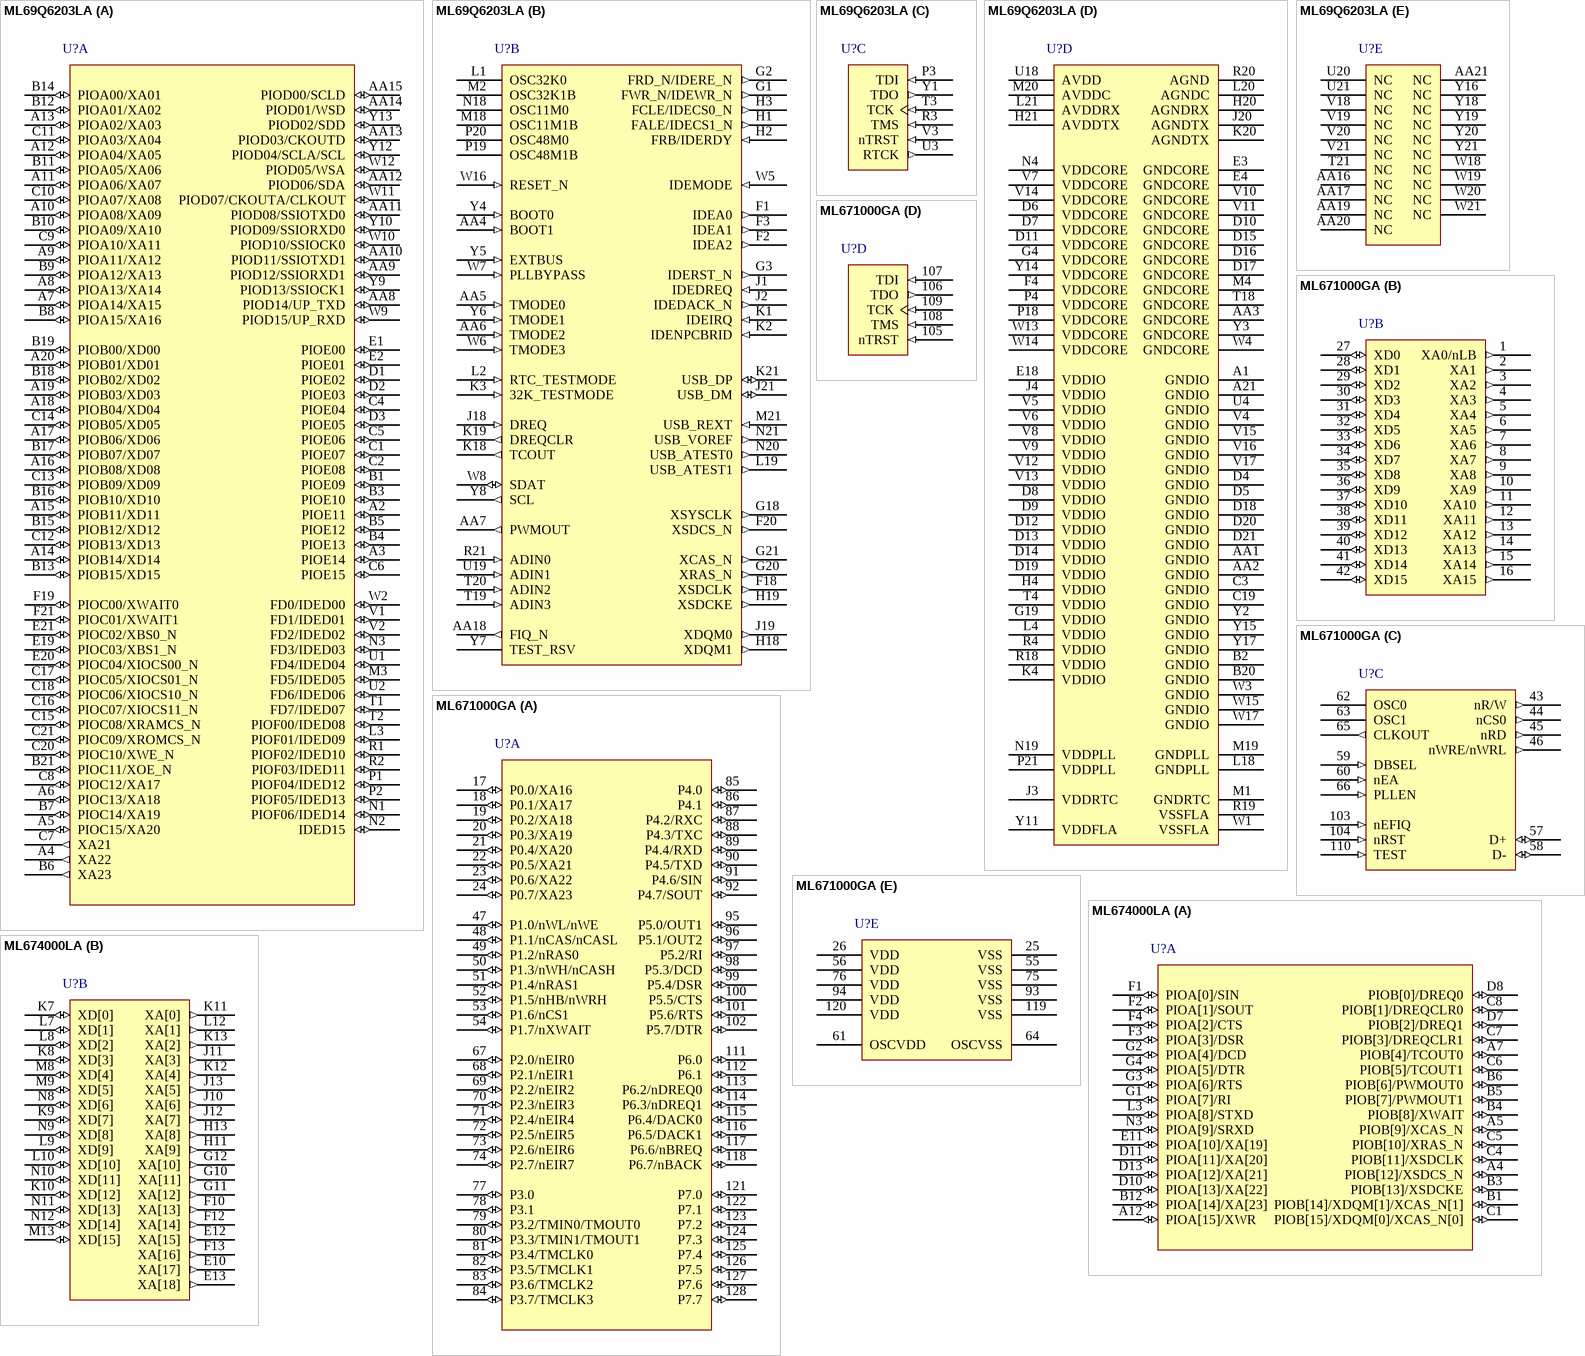
[diagram p5: symbols ML69Q6203LA to ML674000LA]